# Altium integrated library PLD Supported Devices.IntLib: 344 symbols (part 2 of 6)
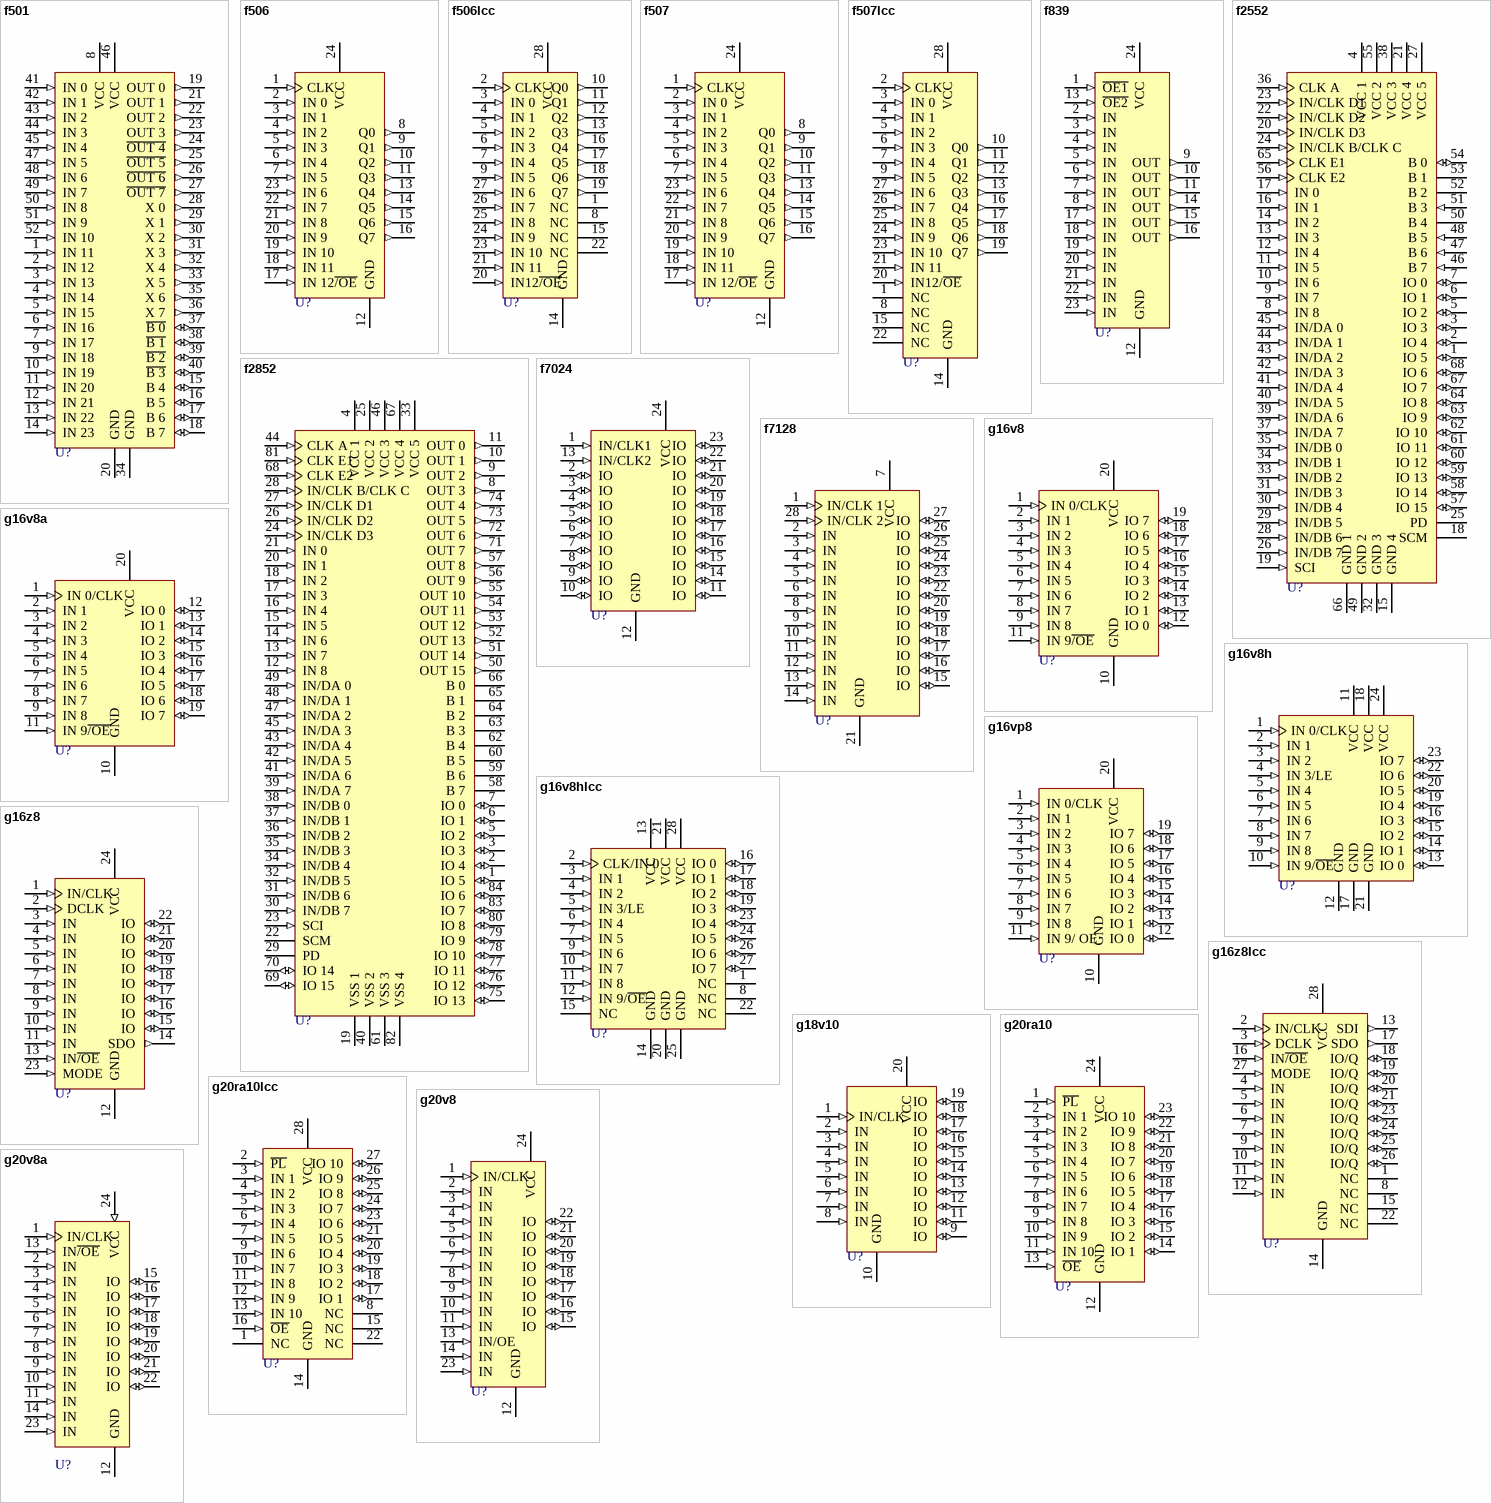
[diagram p19: symbols f501 to g20v8a]

## g20ra10
designator U?
24-Pin Asynchronous EE CMOS Programmable Array Logic; Published: 16-Jul-2002; LatestRevisionDate: 17-Jul-2002; LatestRevisionNote: Re-released for DXP Platform.; Publisher: Altium Limited
footprint DIP-24/X1.5
pins: 1 ~{PL} (in), 2 IN 1 (in), 3 IN 2 (in), 4 IN 3 (in), 5 IN 4 (in), 6 IN 5 (in), 7 IN 6 (in), 8 IN 7 (in), 9 IN 8 (in), 10 IN 9 (in), 11 IN 10 (in), 12 GND (power), 13 ~{OE} (in), 14 IO 1 (io), 15 IO 2 (io), 16 IO 3 (io), 17 IO 4 (io), 18 IO 5 (io), 19 IO 6 (io), 20 IO 7 (io), 21 IO 8 (io), 22 IO 9 (io), 23 IO 10 (io), 24 VCC (power)

## g20ra10lcc
designator U?
24-Pin Asynchronous EE CMOS Programmable Array Logic; Published: 16-Jul-2002; LatestRevisionDate: 17-Jul-2002; LatestRevisionNote: Re-released for DXP Platform.; Publisher: Altium Limited
footprint QCC-J28/X.6
pins: 1 NC, 2 ~{PL} (in), 3 IN 1 (in), 4 IN 2 (in), 5 IN 3 (in), 6 IN 4 (in), 7 IN 5 (in), 8 NC, 9 IN 6 (in), 10 IN 7 (in), 11 IN 8 (in), 12 IN 9 (in), 13 IN 10 (in), 14 GND (power), 15 NC, 16 ~{OE} (in), 17 IO 1 (io), 18 IO 2 (io), 19 IO 3 (io), 20 IO 4 (io), 21 IO 5 (io), 22 NC, 23 IO 6 (io), 24 IO 7 (io), 25 IO 8 (io), 26 IO 9 (io), 27 IO 10 (io), 28 VCC (power)

## g20v8
designator U?
EE CMOS 24-Pin Universal Programmable Array Logic; Published: 16-Jul-2002; LatestRevisionDate: 17-Jul-2002; LatestRevisionNote: Re-released for DXP Platform.; Publisher: Altium Limited
footprint DIP-24/X1.5
pins: 1 IN/CLK (in), 2 IN (in), 3 IN (in), 4 IN (in), 5 IN (in), 6 IN (in), 7 IN (in), 8 IN (in), 9 IN (in), 10 IN (in), 11 IN (in), 12 GND (power), 13 IN/OE (in), 14 IN (in), 15 IO (io), 16 IO (io), 17 IO (io), 18 IO (io), 19 IO (io), 20 IO (io), 21 IO (io), 22 IO (io), 23 IN (in), 24 VCC (power)

## g20v8a
designator U?
High-Performance E²CMOS PLD; Published: 16-Jul-2002; LatestRevisionDate: 17-Jul-2002; LatestRevisionNote: Re-released for DXP Platform.; Publisher: Altium Limited
footprint DIP-24/X1.5
pins: 1 IN/CLK (in), 2 IN (in), 3 IN (in), 4 IN (in), 5 IN (in), 6 IN (in), 7 IN (in), 8 IN (in), 9 IN (in), 10 IN (in), 11 IN (in), 12 GND (power), 13 IN~{/OE} (in), 14 IN (in), 15 IO (io), 16 IO (io), 17 IO (io), 18 IO (io), 19 IO (io), 20 IO (io), 21 IO (io), 22 IO (io), 23 IN (in), 24 VCC (in)

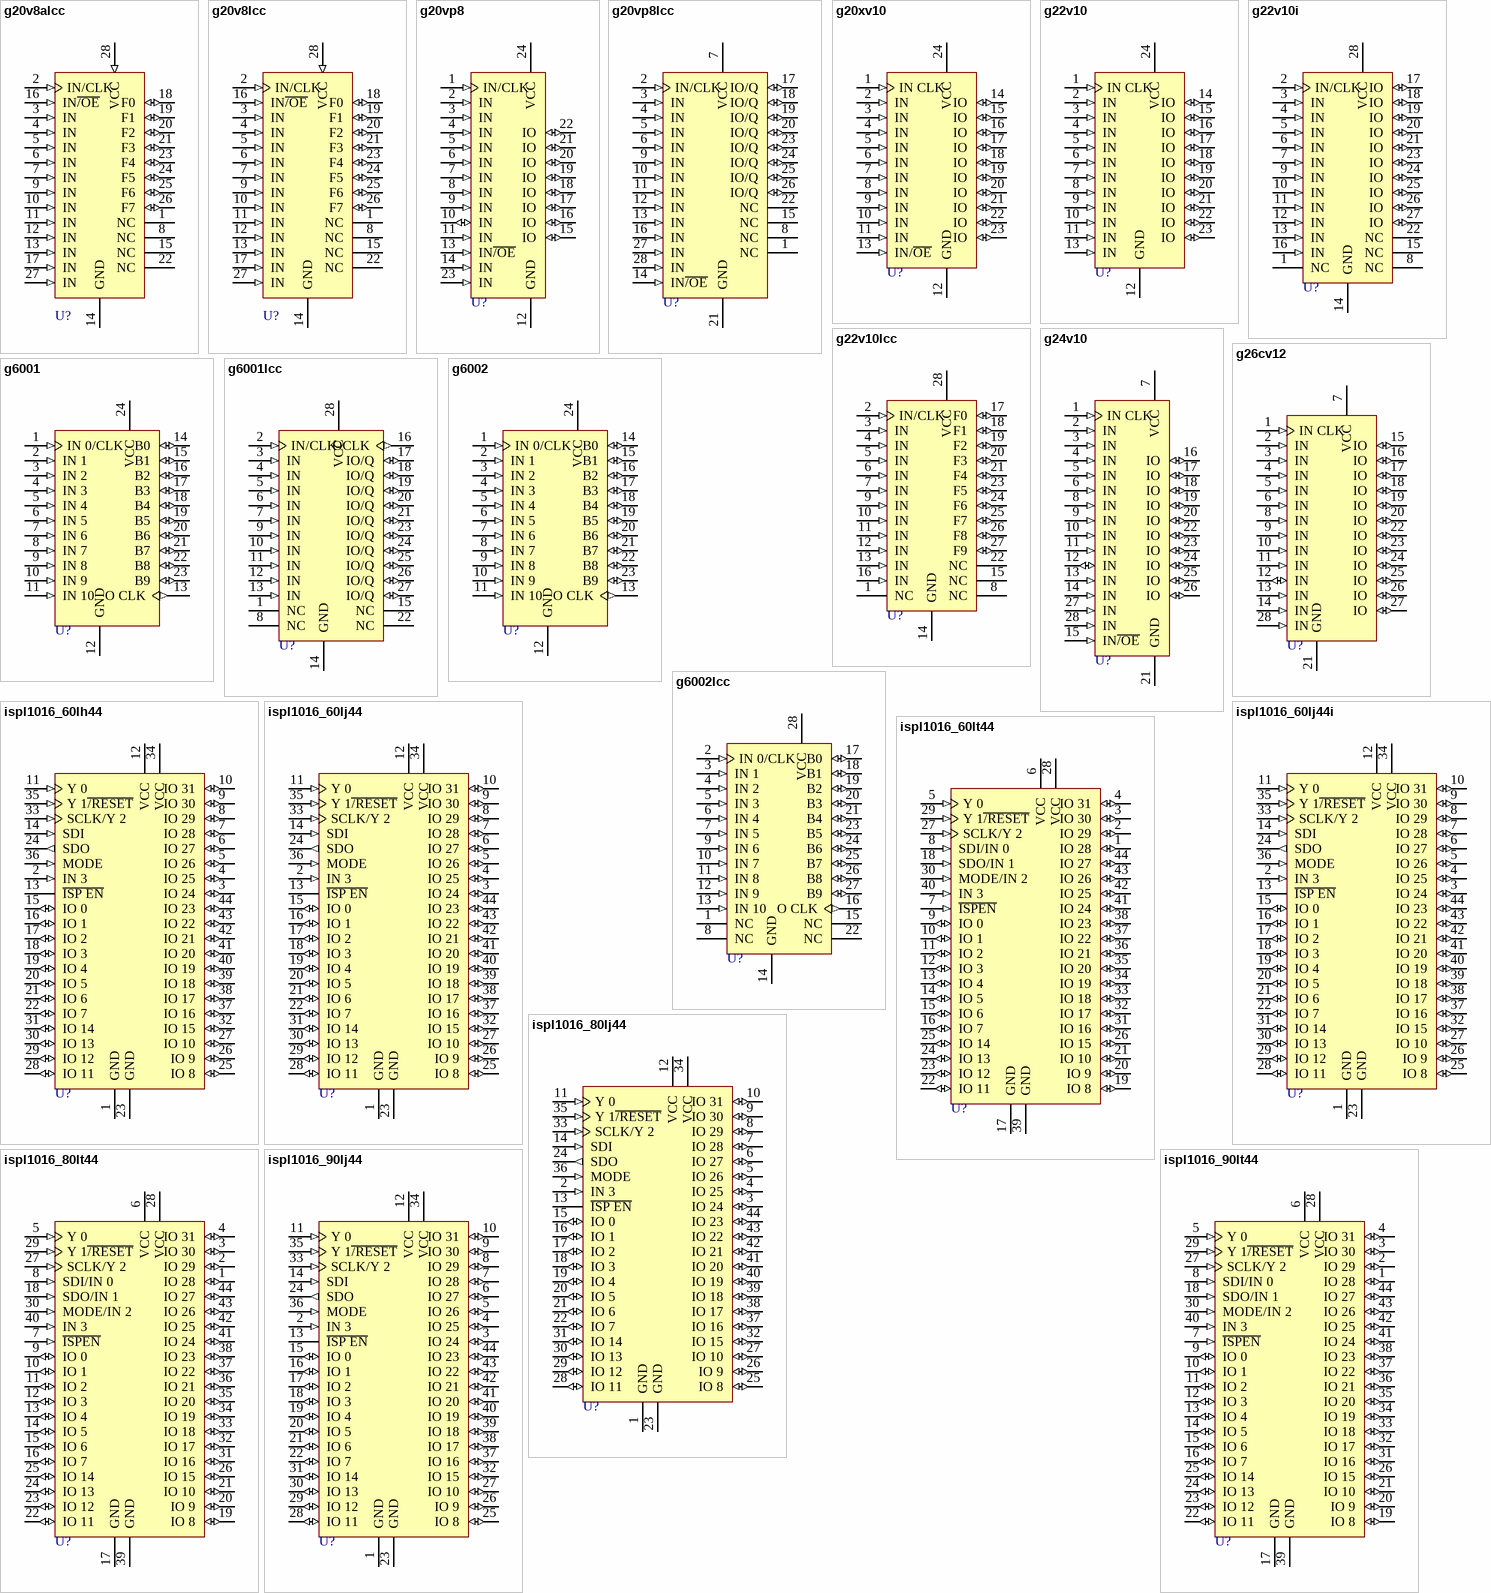
[diagram p4: symbols g20v8alcc to ispl1016_90lt44]

## g20v8alcc
designator U?
High-Performance E²CMOS PLD; Published: 16-Jul-2002; LatestRevisionDate: 17-Jul-2002; LatestRevisionNote: Re-released for DXP Platform.; Publisher: Altium Limited
footprint QCC-J28/X.6
pins: 1 NC, 2 IN/CLK (in), 3 IN (in), 4 IN (in), 5 IN (in), 6 IN (in), 7 IN (in), 8 NC, 9 IN (in), 10 IN (in), 11 IN (in), 12 IN (in), 13 IN (in), 14 GND (power), 15 NC, 16 IN~{/OE} (in), 17 IN (in), 18 F0 (io), 19 F1 (io), 20 F2 (io), 21 F3 (io), 22 NC, 23 F4 (io), 24 F5 (io), 25 F6 (io), 26 F7 (io), 27 IN (in), 28 VCC (in)

## g20v8lcc
designator U?
High-Performance EEPLD; Published: 16-Jul-2002; LatestRevisionDate: 17-Jul-2002; LatestRevisionNote: Re-released for DXP Platform.; Publisher: Altium Limited
footprint QCC-J28/Z13.3
pins: 1 NC, 2 IN/CLK (in), 3 IN (in), 4 IN (in), 5 IN (in), 6 IN (in), 7 IN (in), 8 NC, 9 IN (in), 10 IN (in), 11 IN (in), 12 IN (in), 13 IN (in), 14 GND (power), 15 NC, 16 IN~{/OE} (in), 17 IN (in), 18 F0 (io), 19 F1 (io), 20 F2 (io), 21 F3 (io), 22 NC, 23 F4 (io), 24 F5 (io), 25 F6 (io), 26 F7 (io), 27 IN (in), 28 VCC (in)

## g20vp8
designator U?
High-Speed E CMOS PLD GAL; Published: 16-Jul-2002; LatestRevisionDate: 17-Jul-2002; LatestRevisionNote: Re-released for DXP Platform.; Publisher: Altium Limited
footprint DIP-24/X1.5
pins: 1 IN/CLK (in), 2 IN (in), 3 IN (in), 4 IN (in), 5 IN (in), 6 IN (in), 7 IN (in), 8 IN (in), 9 IN (in), 10 IN (io), 11 IN (in), 12 GND (power), 13 IN~{/OE} (in), 14 IN (in), 15 IO (io), 16 IO (io), 17 IO (io), 18 IO (io), 19 IO (io), 20 IO (io), 21 IO (io), 22 IO (io), 23 IN (in), 24 VCC (power)

## g20vp8lcc
designator U?
High-Speed E CMOS PLD GAL; Published: 16-Jul-2002; LatestRevisionDate: 17-Jul-2002; LatestRevisionNote: Re-released for DXP Platform.; Publisher: Altium Limited
footprint QCC-J28/X.6
pins: 1 NC, 2 IN/CLK (in), 3 IN (in), 4 IN (in), 5 IN (in), 6 IN (in), 7 VCC (power), 8 NC, 9 IN (in), 10 IN (in), 11 IN (in), 12 IN (in), 13 IN (in), 14 IN~{/OE} (in), 15 NC, 16 IN (in), 17 IO/Q (io), 18 IO/Q (io), 19 IO/Q (io), 20 IO/Q (io), 21 GND (power), 22 NC, 23 IO/Q (io), 24 IO/Q (io), 25 IO/Q (io), 26 IO/Q (io), 27 IN (in), 28 IN (in)

## g20xv10
designator U?
High-Speed E CMOS PLD Generic Array Logic; Published: 16-Jul-2002; LatestRevisionDate: 17-Jul-2002; LatestRevisionNote: Re-released for DXP Platform.; Publisher: Altium Limited
footprint DIP-24/X1.5
pins: 1 IN CLK (in), 2 IN (in), 3 IN (in), 4 IN (in), 5 IN (in), 6 IN (in), 7 IN (in), 8 IN (in), 9 IN (in), 10 IN (in), 11 IN (in), 12 GND (power), 13 IN/~{OE} (in), 14 IO (io), 15 IO (io), 16 IO (io), 17 IO (io), 18 IO (io), 19 IO (io), 20 IO (io), 21 IO (io), 22 IO (io), 23 IO (io), 24 VCC (power)

## g22v10
designator U?
High-Performance E CMOS PLD; Published: 16-Jul-2002; LatestRevisionDate: 17-Jul-2002; LatestRevisionNote: Re-released for DXP Platform.; Publisher: Altium Limited
footprint DIP-24/X1.5
pins: 1 IN CLK (in), 2 IN (in), 3 IN (in), 4 IN (in), 5 IN (in), 6 IN (in), 7 IN (in), 8 IN (in), 9 IN (in), 10 IN (in), 11 IN (in), 12 GND (power), 13 IN (in), 14 IO (io), 15 IO (io), 16 IO (io), 17 IO (io), 18 IO (io), 19 IO (io), 20 IO (io), 21 IO (io), 22 IO (io), 23 IO (io), 24 VCC (power)

## g22v10i
designator U?
High-Performance E2CMOS PLD Generic Array Logic; Published: 16-Jul-2002; LatestRevisionDate: 17-Jul-2002; LatestRevisionNote: Re-released for DXP Platform.; Publisher: Altium Limited
footprint QCC-J28/X.6
pins: 1 NC, 2 IN/CLK (in), 3 IN (in), 4 IN (in), 5 IN (in), 6 IN (in), 7 IN (in), 8 NC, 9 IN (in), 10 IN (in), 11 IN (in), 12 IN (in), 13 IN (in), 14 GND (power), 15 NC, 16 IN (in), 17 IO (io), 18 IO (io), 19 IO (io), 20 IO (io), 21 IO (io), 22 NC, 23 IO (io), 24 IO (io), 25 IO (io), 26 IO (io), 27 IO (io), 28 VCC (power)

## g22v10lcc
designator U?
Low-Noise, High-Drive, Metastable Immune, PLD; Published: 16-Jul-2002; LatestRevisionDate: 17-Jul-2002; LatestRevisionNote: Re-released for DXP Platform.; Publisher: Altium Limited
footprint QCC-J28/X.6
pins: 1 NC, 2 IN/CLK (in), 3 IN (in), 4 IN (in), 5 IN (in), 6 IN (in), 7 IN (in), 8 NC, 9 IN (in), 10 IN (in), 11 IN (in), 12 IN (in), 13 IN (in), 14 GND (power), 15 NC, 16 IN (in), 17 F0 (io), 18 F1 (io), 19 F2 (io), 20 F3 (io), 21 F4 (io), 22 NC, 23 F5 (io), 24 F6 (io), 25 F7 (io), 26 F8 (io), 27 F9 (io), 28 VCC (power)

## g24v10
designator U?
EE CMOS 28-Pin Universal Programmable Array Logic; Published: 16-Jul-2002; LatestRevisionDate: 17-Jul-2002; LatestRevisionNote: Re-released for DXP Platform.; Publisher: Altium Limited
footprint QCC-J28/X.6
pins: 1 IN CLK (in), 2 IN (in), 3 IN (in), 4 IN (in), 5 IN (in), 6 IN (in), 7 VCC (power), 8 IN (in), 9 IN (in), 10 IN (in), 11 IN (in), 12 IN (io), 13 IN (in), 14 IN (in), 15 IN~{/OE} (in), 16 IO (io), 17 IO (io), 18 IO (io), 19 IO (io), 20 IO (io), 21 GND (power), 22 IO (io), 23 IO (io), 24 IO (io), 25 IO (io), 26 IO (io), 27 IN (in), 28 IN (in)

## g26cv12
designator U?
High-Performance E CMOS PLD; Published: 16-Jul-2002; LatestRevisionDate: 17-Jul-2002; LatestRevisionNote: Re-released for DXP Platform.; Publisher: Altium Limited
footprint QCC-J28/X.6
pins: 1 IN CLK (in), 2 IN (in), 3 IN (in), 4 IN (in), 5 IN (in), 6 IN (in), 7 VCC (power), 8 IN (in), 9 IN (in), 10 IN (in), 11 IN (in), 12 IN (io), 13 IN (in), 14 IN (in), 15 IO (io), 16 IO (io), 17 IO (io), 18 IO (io), 19 IO (io), 20 IO (io), 21 GND (power), 22 IO (io), 23 IO (io), 24 IO (io), 25 IO (io), 26 IO (io), 27 IO (io), 28 IN (in)

## g6001
designator U?
High-Performance E CMOS FPLD Generic Array Logic; Published: 16-Jul-2002; LatestRevisionDate: 17-Jul-2002; LatestRevisionNote: Re-released for DXP Platform.; Publisher: Altium Limited
footprint DIP-24/X1.5
pins: 1 IN 0/CLK (in), 2 IN 1 (in), 3 IN 2 (in), 4 IN 3 (in), 5 IN 4 (in), 6 IN 5 (in), 7 IN 6 (in), 8 IN 7 (in), 9 IN 8 (in), 10 IN 9 (in), 11 IN 10 (in), 12 GND (power), 13 O CLK (out), 14 B0 (io), 15 B1 (io), 16 B2 (io), 17 B3 (io), 18 B4 (io), 19 B5 (io), 20 B6 (io), 21 B7 (io), 22 B8 (io), 23 B9 (io), 24 VCC (power)

## g6001lcc
designator U?
High-Performance E CMOS FPLD GAL; Published: 16-Jul-2002; LatestRevisionDate: 17-Jul-2002; LatestRevisionNote: Re-released for DXP Platform.; Publisher: Altium Limited
footprint QCC-J28/X.6
pins: 1 NC, 2 IN/CLK (in), 3 IN (in), 4 IN (in), 5 IN (in), 6 IN (in), 7 IN (in), 8 NC, 9 IN (in), 10 IN (in), 11 IN (in), 12 IN (in), 13 IN (in), 14 GND (power), 15 NC, 16 OCLK (out), 17 IO/Q (io), 18 IO/Q (io), 19 IO/Q (io), 20 IO/Q (io), 21 IO/Q (io), 22 NC, 23 IO/Q (io), 24 IO/Q (io), 25 IO/Q (io), 26 IO/Q (io), 27 IO/Q (io), 28 VCC (power)

## g6002
designator U?
High-Performance E CMOS FPLD Generic Array Logic; Published: 16-Jul-2002; LatestRevisionDate: 17-Jul-2002; LatestRevisionNote: Re-released for DXP Platform.; Publisher: Altium Limited
footprint DIP-24/X1.5
pins: 1 IN 0/CLK (in), 2 IN 1 (in), 3 IN 2 (in), 4 IN 3 (in), 5 IN 4 (in), 6 IN 5 (in), 7 IN 6 (in), 8 IN 7 (in), 9 IN 8 (in), 10 IN 9 (in), 11 IN 10 (in), 12 GND (power), 13 O CLK (out), 14 B0 (io), 15 B1 (io), 16 B2 (io), 17 B3 (io), 18 B4 (io), 19 B5 (io), 20 B6 (io), 21 B7 (io), 22 B8 (io), 23 B9 (io), 24 VCC (power)

## g6002lcc
designator U?
High-Performance E CMOS FPLD Generic Array Logic; Published: 16-Jul-2002; LatestRevisionDate: 17-Jul-2002; LatestRevisionNote: Re-released for DXP Platform.; Publisher: Altium Limited
footprint QCC-J28/X.6
pins: 1 NC, 2 IN 0/CLK (in), 3 IN 1 (in), 4 IN 2 (in), 5 IN 3 (in), 6 IN 4 (in), 7 IN 5 (in), 8 NC, 9 IN 6 (in), 10 IN 7 (in), 11 IN 8 (in), 12 IN 9 (in), 13 IN 10 (in), 14 GND (power), 15 NC, 16 O CLK (out), 17 B0 (io), 18 B1 (io), 19 B2 (io), 20 B3 (io), 21 B4 (io), 22 NC, 23 B5 (io), 24 B6 (io), 25 B7 (io), 26 B8 (io), 27 B9 (io), 28 VCC (power)

## ispl1016_60lh44
designator U?
In-System Programmable Large Scale Integration High-Density Programmable Logic; Published: 16-Jul-2002; LatestRevisionDate: 17-Jul-2002; LatestRevisionNote: Re-released for DXP Platform.; Publisher: Altium Limited
footprint QCC-J44
pins: 1 GND (power), 2 IN 3 (in), 3 IO 24 (io), 4 IO 25 (io), 5 IO 26 (io), 6 IO 27 (io), 7 IO 28 (io), 8 IO 29 (io), 9 IO 30 (io), 10 IO 31 (io), 11 Y 0 (in), 12 VCC (power), 13 ~{ISP EN}, 14 SDI (in), 15 IO 0 (io), 16 IO 1 (io), 17 IO 2 (io), 18 IO 3 (io), 19 IO 4 (io), 20 IO 5 (io), 21 IO 6 (io), 22 IO 7 (io), 23 GND (power), 24 SDO (out), 25 IO 8 (io), 26 IO 9 (io), 27 IO 10 (io), 28 IO 11 (io), 29 IO 12 (io), 30 IO 13 (io), 31 IO 14 (io), 32 IO 15 (io), 33 SCLK/Y 2 (in), 34 VCC (power), 35 Y 1~{/RESET} (in), 36 MODE (in), 37 IO 16 (io), 38 IO 17 (io), 39 IO 18 (io), 40 IO 19 (io), 41 IO 20 (io), 42 IO 21 (io), 43 IO 22 (io), 44 IO 23 (io)

## ispl1016_60lj44
designator U?
In-System Programmable Large Scale Integration High-Density Programmable Logic; Published: 16-Jul-2002; LatestRevisionDate: 17-Jul-2002; LatestRevisionNote: Re-released for DXP Platform.; Publisher: Altium Limited
footprint QCC-J44/Y2
pins: 1 GND (power), 2 IN 3 (in), 3 IO 24 (io), 4 IO 25 (io), 5 IO 26 (io), 6 IO 27 (io), 7 IO 28 (io), 8 IO 29 (io), 9 IO 30 (io), 10 IO 31 (io), 11 Y 0 (in), 12 VCC (power), 13 ~{ISP EN}, 14 SDI (in), 15 IO 0 (io), 16 IO 1 (io), 17 IO 2 (io), 18 IO 3 (io), 19 IO 4 (io), 20 IO 5 (io), 21 IO 6 (io), 22 IO 7 (io), 23 GND (power), 24 SDO (out), 25 IO 8 (io), 26 IO 9 (io), 27 IO 10 (io), 28 IO 11 (io), 29 IO 12 (io), 30 IO 13 (io), 31 IO 14 (io), 32 IO 15 (io), 33 SCLK/Y 2 (in), 34 VCC (power), 35 Y 1~{/RESET} (in), 36 MODE (in), 37 IO 16 (io), 38 IO 17 (io), 39 IO 18 (io), 40 IO 19 (io), 41 IO 20 (io), 42 IO 21 (io), 43 IO 22 (io), 44 IO 23 (io)

## ispl1016_60lj44i
designator U?
In-System Programmable Large Scale Integration High-Density Programmable Logic; Published: 16-Jul-2002; LatestRevisionDate: 17-Jul-2002; LatestRevisionNote: Re-released for DXP Platform.; Publisher: Altium Limited
footprint QCC-J44/Y2
pins: 1 GND (power), 2 IN 3 (in), 3 IO 24 (io), 4 IO 25 (io), 5 IO 26 (io), 6 IO 27 (io), 7 IO 28 (io), 8 IO 29 (io), 9 IO 30 (io), 10 IO 31 (io), 11 Y 0 (in), 12 VCC (power), 13 ~{ISP EN}, 14 SDI (in), 15 IO 0 (io), 16 IO 1 (io), 17 IO 2 (io), 18 IO 3 (io), 19 IO 4 (io), 20 IO 5 (io), 21 IO 6 (io), 22 IO 7 (io), 23 GND (power), 24 SDO (out), 25 IO 8 (io), 26 IO 9 (io), 27 IO 10 (io), 28 IO 11 (io), 29 IO 12 (io), 30 IO 13 (io), 31 IO 14 (io), 32 IO 15 (io), 33 SCLK/Y 2 (in), 34 VCC (power), 35 Y 1~{/RESET} (in), 36 MODE (in), 37 IO 16 (io), 38 IO 17 (io), 39 IO 18 (io), 40 IO 19 (io), 41 IO 20 (io), 42 IO 21 (io), 43 IO 22 (io), 44 IO 23 (io)

## ispl1016_60lt44
designator U?
In-System Programmable Large Scale Integration High-Density Programmable Logic; Published: 16-Jul-2002; LatestRevisionDate: 17-Jul-2002; LatestRevisionNote: Re-released for DXP Platform.; Publisher: Altium Limited
footprint QFP10x10-G44/X.5N
pins: 1 IO 28 (io), 2 IO 29 (io), 3 IO 30 (io), 4 IO 31 (io), 5 Y 0 (in), 6 VCC (power), 7 ~{ISPEN} (in), 8 SDI/IN 0 (in), 9 IO 0 (io), 10 IO 1 (io), 11 IO 2 (io), 12 IO 3 (io), 13 IO 4 (io), 14 IO 5 (io), 15 IO 6 (io), 16 IO 7 (io), 17 GND (power), 18 SDO/IN 1 (in), 19 IO 8 (io), 20 IO 9 (io), 21 IO 10 (io), 22 IO 11 (io), 23 IO 12 (io), 24 IO 13 (io), 25 IO 14 (io), 26 IO 15 (io), 27 SCLK/Y 2 (in), 28 VCC (power), 29 Y 1~{/RESET} (in), 30 MODE/IN 2 (in), 31 IO 16 (io), 32 IO 17 (io), 33 IO 18 (io), 34 IO 19 (io), 35 IO 20 (io), 36 IO 21 (io), 37 IO 22 (io), 38 IO 23 (io), 39 GND (power), 40 IN 3 (in), 41 IO 24 (io), 42 IO 25 (io), 43 IO 26 (io), 44 IO 27 (io)

## ispl1016_80lj44
designator U?
In-System Programmable Large Scale Integration High-Density Programmable Logic; Published: 16-Jul-2002; LatestRevisionDate: 17-Jul-2002; LatestRevisionNote: Re-released for DXP Platform.; Publisher: Altium Limited
footprint QCC-J44/Y2
pins: 1 GND (power), 2 IN 3 (in), 3 IO 24 (io), 4 IO 25 (io), 5 IO 26 (io), 6 IO 27 (io), 7 IO 28 (io), 8 IO 29 (io), 9 IO 30 (io), 10 IO 31 (io), 11 Y 0 (in), 12 VCC (power), 13 ~{ISP EN}, 14 SDI (in), 15 IO 0 (io), 16 IO 1 (io), 17 IO 2 (io), 18 IO 3 (io), 19 IO 4 (io), 20 IO 5 (io), 21 IO 6 (io), 22 IO 7 (io), 23 GND (power), 24 SDO (out), 25 IO 8 (io), 26 IO 9 (io), 27 IO 10 (io), 28 IO 11 (io), 29 IO 12 (io), 30 IO 13 (io), 31 IO 14 (io), 32 IO 15 (io), 33 SCLK/Y 2 (in), 34 VCC (power), 35 Y 1~{/RESET} (in), 36 MODE (in), 37 IO 16 (io), 38 IO 17 (io), 39 IO 18 (io), 40 IO 19 (io), 41 IO 20 (io), 42 IO 21 (io), 43 IO 22 (io), 44 IO 23 (io)

## ispl1016_80lt44
designator U?
In-System Programmable Large Scale Integration High-Density Programmable Logic; Published: 16-Jul-2002; LatestRevisionDate: 17-Jul-2002; LatestRevisionNote: Re-released for DXP Platform.; Publisher: Altium Limited
footprint QFP10x10-G44/X.5N
pins: 1 IO 28 (io), 2 IO 29 (io), 3 IO 30 (io), 4 IO 31 (io), 5 Y 0 (in), 6 VCC (power), 7 ~{ISPEN} (in), 8 SDI/IN 0 (in), 9 IO 0 (io), 10 IO 1 (io), 11 IO 2 (io), 12 IO 3 (io), 13 IO 4 (io), 14 IO 5 (io), 15 IO 6 (io), 16 IO 7 (io), 17 GND (power), 18 SDO/IN 1 (in), 19 IO 8 (io), 20 IO 9 (io), 21 IO 10 (io), 22 IO 11 (io), 23 IO 12 (io), 24 IO 13 (io), 25 IO 14 (io), 26 IO 15 (io), 27 SCLK/Y 2 (in), 28 VCC (power), 29 Y 1~{/RESET} (in), 30 MODE/IN 2 (in), 31 IO 16 (io), 32 IO 17 (io), 33 IO 18 (io), 34 IO 19 (io), 35 IO 20 (io), 36 IO 21 (io), 37 IO 22 (io), 38 IO 23 (io), 39 GND (power), 40 IN 3 (in), 41 IO 24 (io), 42 IO 25 (io), 43 IO 26 (io), 44 IO 27 (io)

## ispl1016_90lj44
designator U?
In-System Programmable Large Scale Integration High-Density Programmable Logic; Published: 16-Jul-2002; LatestRevisionDate: 17-Jul-2002; LatestRevisionNote: Re-released for DXP Platform.; Publisher: Altium Limited
footprint QCC-J44/Y2
pins: 1 GND (power), 2 IN 3 (in), 3 IO 24 (io), 4 IO 25 (io), 5 IO 26 (io), 6 IO 27 (io), 7 IO 28 (io), 8 IO 29 (io), 9 IO 30 (io), 10 IO 31 (io), 11 Y 0 (in), 12 VCC (power), 13 ~{ISP EN}, 14 SDI (in), 15 IO 0 (io), 16 IO 1 (io), 17 IO 2 (io), 18 IO 3 (io), 19 IO 4 (io), 20 IO 5 (io), 21 IO 6 (io), 22 IO 7 (io), 23 GND (power), 24 SDO (out), 25 IO 8 (io), 26 IO 9 (io), 27 IO 10 (io), 28 IO 11 (io), 29 IO 12 (io), 30 IO 13 (io), 31 IO 14 (io), 32 IO 15 (io), 33 SCLK/Y 2 (in), 34 VCC (power), 35 Y 1~{/RESET} (in), 36 MODE (in), 37 IO 16 (io), 38 IO 17 (io), 39 IO 18 (io), 40 IO 19 (io), 41 IO 20 (io), 42 IO 21 (io), 43 IO 22 (io), 44 IO 23 (io)

## ispl1016_90lt44
designator U?
In-System Programmable Large Scale Integration High-Density Programmable Logic; Published: 16-Jul-2002; LatestRevisionDate: 17-Jul-2002; LatestRevisionNote: Re-released for DXP Platform.; Publisher: Altium Limited
footprint QFP10x10-G44/X.5N
pins: 1 IO 28 (io), 2 IO 29 (io), 3 IO 30 (io), 4 IO 31 (io), 5 Y 0 (in), 6 VCC (power), 7 ~{ISPEN} (in), 8 SDI/IN 0 (in), 9 IO 0 (io), 10 IO 1 (io), 11 IO 2 (io), 12 IO 3 (io), 13 IO 4 (io), 14 IO 5 (io), 15 IO 6 (io), 16 IO 7 (io), 17 GND (power), 18 SDO/IN 1 (in), 19 IO 8 (io), 20 IO 9 (io), 21 IO 10 (io), 22 IO 11 (io), 23 IO 12 (io), 24 IO 13 (io), 25 IO 14 (io), 26 IO 15 (io), 27 SCLK/Y 2 (in), 28 VCC (power), 29 Y 1~{/RESET} (in), 30 MODE/IN 2 (in), 31 IO 16 (io), 32 IO 17 (io), 33 IO 18 (io), 34 IO 19 (io), 35 IO 20 (io), 36 IO 21 (io), 37 IO 22 (io), 38 IO 23 (io), 39 GND (power), 40 IN 3 (in), 41 IO 24 (io), 42 IO 25 (io), 43 IO 26 (io), 44 IO 27 (io)

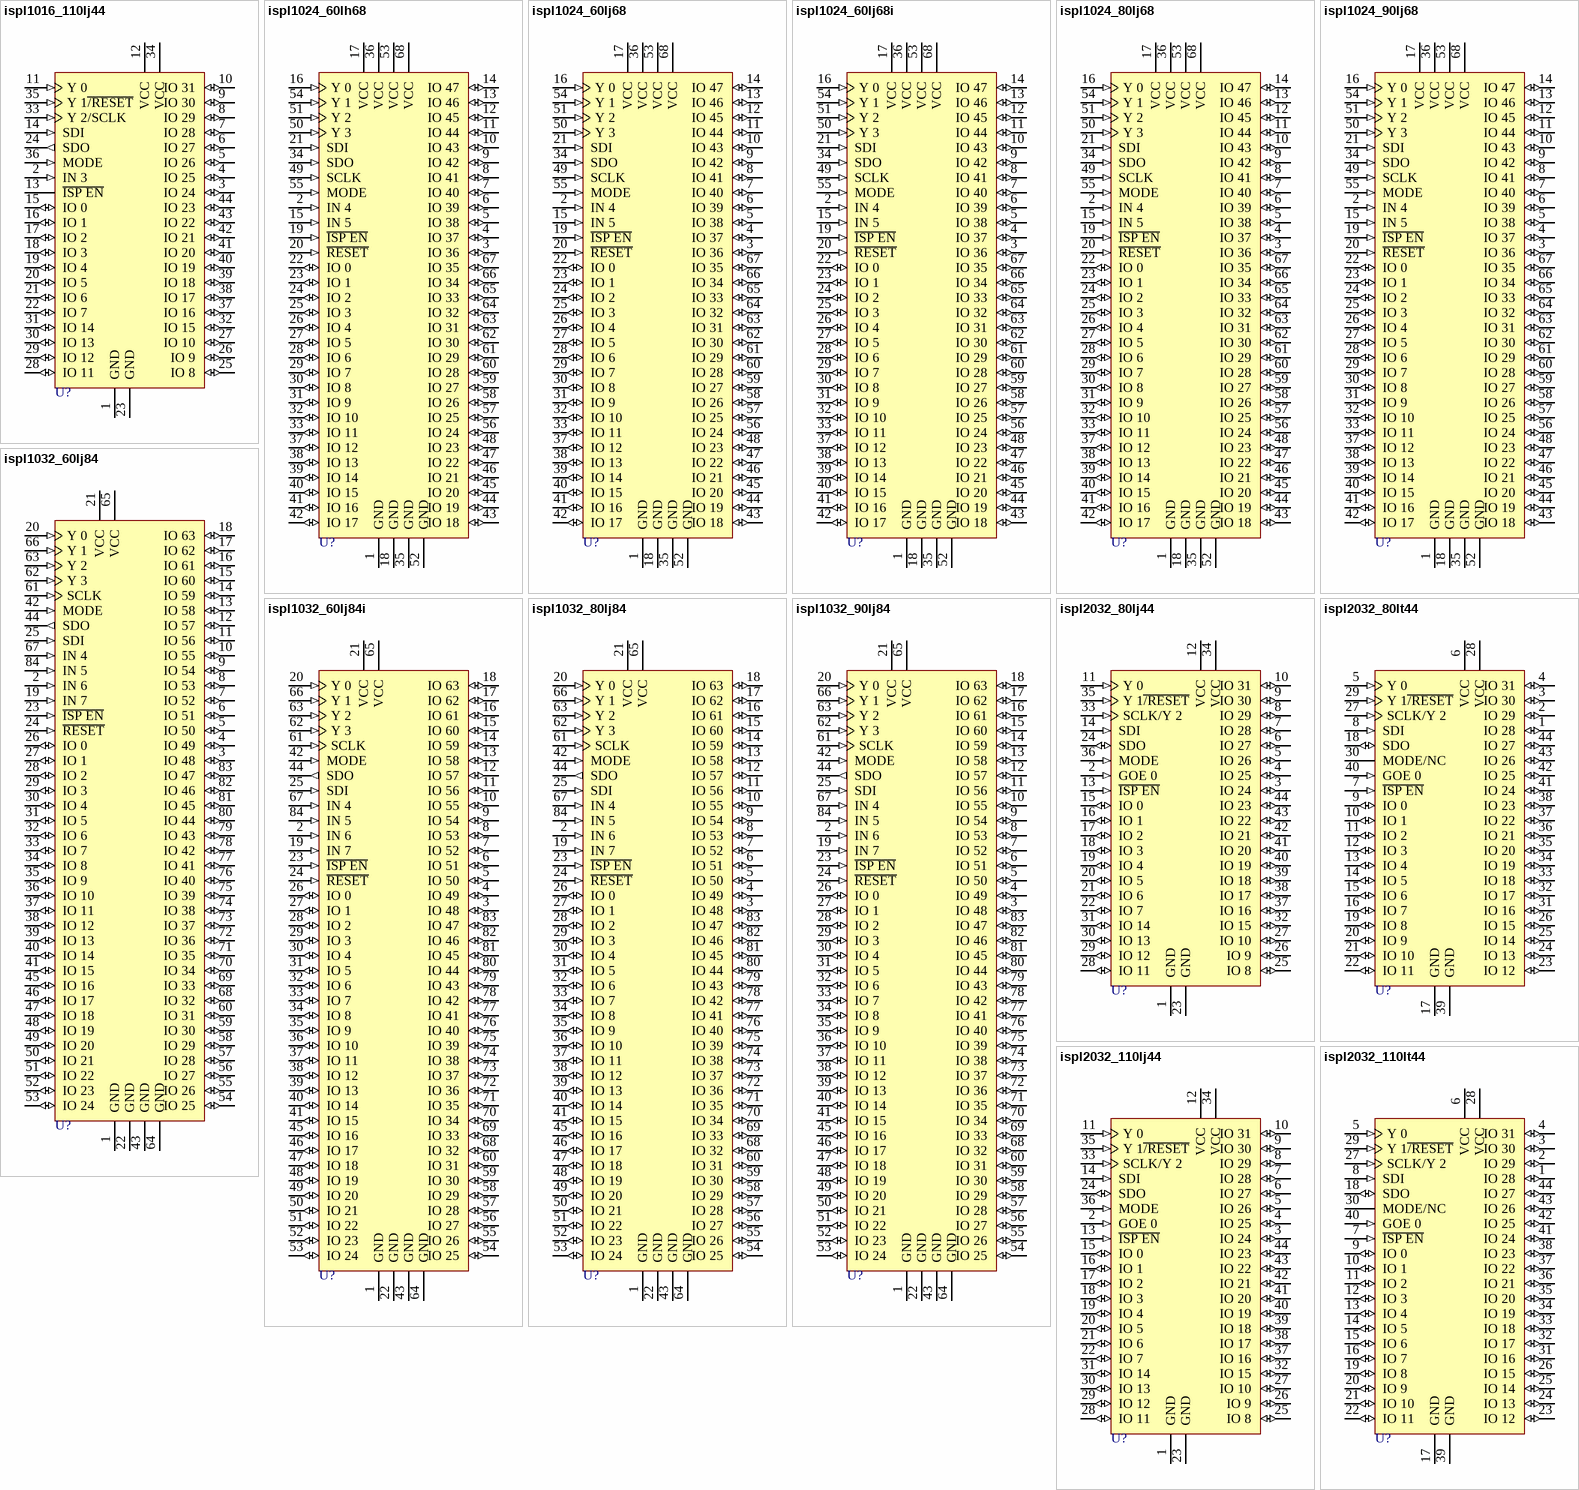
[diagram p5: symbols ispl1016_110lj44 to ispl2032_110lt44]

## ispl1016_110lj44
designator U?
In-System Programmable Large Scale Integration High-Density Programmable Logic; Published: 16-Jul-2002; LatestRevisionDate: 17-Jul-2002; LatestRevisionNote: Re-released for DXP Platform.; Publisher: Altium Limited
footprint QCC-J44/Y2
pins: 1 GND (power), 2 IN 3 (in), 3 IO 24 (io), 4 IO 25 (io), 5 IO 26 (io), 6 IO 27 (io), 7 IO 28 (io), 8 IO 29 (io), 9 IO 30 (io), 10 IO 31 (io), 11 Y 0 (in), 12 VCC (power), 13 ~{ISP EN}, 14 SDI (in), 15 IO 0 (io), 16 IO 1 (io), 17 IO 2 (io), 18 IO 3 (io), 19 IO 4 (io), 20 IO 5 (io), 21 IO 6 (io), 22 IO 7 (io), 23 GND (power), 24 SDO (out), 25 IO 8 (io), 26 IO 9 (io), 27 IO 10 (io), 28 IO 11 (io), 29 IO 12 (io), 30 IO 13 (io), 31 IO 14 (io), 32 IO 15 (io), 33 Y 2/SCLK (in), 34 VCC (power), 35 Y 1~{/RESET} (in), 36 MODE (in), 37 IO 16 (io), 38 IO 17 (io), 39 IO 18 (io), 40 IO 19 (io), 41 IO 20 (io), 42 IO 21 (io), 43 IO 22 (io), 44 IO 23 (io)

## ispl1024_60lh68
designator U?
Programmable Large Scale Integration High-Density Programmable Logic; Published: 16-Jul-2002; LatestRevisionDate: 17-Jul-2002; LatestRevisionNote: Re-released for DXP Platform.; Publisher: Altium Limited
footprint QCC-J68
pins: 1 GND (power), 2 IN 4 (in), 3 IO 36 (io), 4 IO 37 (io), 5 IO 38 (io), 6 IO 39 (io), 7 IO 40 (io), 8 IO 41 (io), 9 IO 42 (io), 10 IO 43 (io), 11 IO 44 (io), 12 IO 45 (io), 13 IO 46 (io), 14 IO 47 (io), 15 IN 5 (in), 16 Y 0 (in), 17 VCC (power), 18 GND (power), 19 ~{ISP EN} (in), 20 ~{RESET} (in), 21 SDI (in), 22 IO 0 (io), 23 IO 1 (io), 24 IO 2 (io), 25 IO 3 (io), 26 IO 4 (io), 27 IO 5 (io), 28 IO 6 (io), 29 IO 7 (io), 30 IO 8 (io), 31 IO 9 (io), 32 IO 10 (io), 33 IO 11 (io), 34 SDO (in), 35 GND (power), 36 VCC (power), 37 IO 12 (io), 38 IO 13 (io), 39 IO 14 (io), 40 IO 15 (io), 41 IO 16 (io), 42 IO 17 (io), 43 IO 18 (io), 44 IO 19 (io), 45 IO 20 (io), 46 IO 21 (io), 47 IO 22 (io), 48 IO 23 (io), 49 SCLK (in), 50 Y 3 (in), 51 Y 2 (in), 52 GND (power), 53 VCC (power), 54 Y 1 (in), 55 MODE (in), 56 IO 24 (io), 57 IO 25 (io), 58 IO 26 (io), 59 IO 27 (io), 60 IO 28 (io), 61 IO 29 (io), 62 IO 30 (io), 63 IO 31 (io), 64 IO 32 (io), 65 IO 33 (io), 66 IO 34 (io), 67 IO 35 (io), 68 VCC (power)

## ispl1024_60lj68
designator U?
Programmable Large Scale Integration High-Density Programmable Logic; Published: 16-Jul-2002; LatestRevisionDate: 17-Jul-2002; LatestRevisionNote: Re-released for DXP Platform.; Publisher: Altium Limited
footprint QCC-J68/G22.1
pins: 1 GND (power), 2 IN 4 (in), 3 IO 36 (io), 4 IO 37 (io), 5 IO 38 (io), 6 IO 39 (io), 7 IO 40 (io), 8 IO 41 (io), 9 IO 42 (io), 10 IO 43 (io), 11 IO 44 (io), 12 IO 45 (io), 13 IO 46 (io), 14 IO 47 (io), 15 IN 5 (in), 16 Y 0 (in), 17 VCC (power), 18 GND (power), 19 ~{ISP EN} (in), 20 ~{RESET} (in), 21 SDI (in), 22 IO 0 (io), 23 IO 1 (io), 24 IO 2 (io), 25 IO 3 (io), 26 IO 4 (io), 27 IO 5 (io), 28 IO 6 (io), 29 IO 7 (io), 30 IO 8 (io), 31 IO 9 (io), 32 IO 10 (io), 33 IO 11 (io), 34 SDO (in), 35 GND (power), 36 VCC (power), 37 IO 12 (io), 38 IO 13 (io), 39 IO 14 (io), 40 IO 15 (io), 41 IO 16 (io), 42 IO 17 (io), 43 IO 18 (io), 44 IO 19 (io), 45 IO 20 (io), 46 IO 21 (io), 47 IO 22 (io), 48 IO 23 (io), 49 SCLK (in), 50 Y 3 (in), 51 Y 2 (in), 52 GND (power), 53 VCC (power), 54 Y 1 (in), 55 MODE (in), 56 IO 24 (io), 57 IO 25 (io), 58 IO 26 (io), 59 IO 27 (io), 60 IO 28 (io), 61 IO 29 (io), 62 IO 30 (io), 63 IO 31 (io), 64 IO 32 (io), 65 IO 33 (io), 66 IO 34 (io), 67 IO 35 (io), 68 VCC (power)

## ispl1024_60lj68i
designator U?
Programmable Large Scale Integration High-Density Programmable Logic; Published: 16-Jul-2002; LatestRevisionDate: 17-Jul-2002; LatestRevisionNote: Re-released for DXP Platform.; Publisher: Altium Limited
footprint QCC-J68/G22.1
pins: 1 GND (power), 2 IN 4 (in), 3 IO 36 (io), 4 IO 37 (io), 5 IO 38 (io), 6 IO 39 (io), 7 IO 40 (io), 8 IO 41 (io), 9 IO 42 (io), 10 IO 43 (io), 11 IO 44 (io), 12 IO 45 (io), 13 IO 46 (io), 14 IO 47 (io), 15 IN 5 (in), 16 Y 0 (in), 17 VCC (power), 18 GND (power), 19 ~{ISP EN} (in), 20 ~{RESET} (in), 21 SDI (in), 22 IO 0 (io), 23 IO 1 (io), 24 IO 2 (io), 25 IO 3 (io), 26 IO 4 (io), 27 IO 5 (io), 28 IO 6 (io), 29 IO 7 (io), 30 IO 8 (io), 31 IO 9 (io), 32 IO 10 (io), 33 IO 11 (io), 34 SDO (in), 35 GND (power), 36 VCC (power), 37 IO 12 (io), 38 IO 13 (io), 39 IO 14 (io), 40 IO 15 (io), 41 IO 16 (io), 42 IO 17 (io), 43 IO 18 (io), 44 IO 19 (io), 45 IO 20 (io), 46 IO 21 (io), 47 IO 22 (io), 48 IO 23 (io), 49 SCLK (in), 50 Y 3 (in), 51 Y 2 (in), 52 GND (power), 53 VCC (power), 54 Y 1 (in), 55 MODE (in), 56 IO 24 (io), 57 IO 25 (io), 58 IO 26 (io), 59 IO 27 (io), 60 IO 28 (io), 61 IO 29 (io), 62 IO 30 (io), 63 IO 31 (io), 64 IO 32 (io), 65 IO 33 (io), 66 IO 34 (io), 67 IO 35 (io), 68 VCC (power)

## ispl1024_80lj68
designator U?
Programmable Large Scale Integration High-Density Programmable Logic; Published: 16-Jul-2002; LatestRevisionDate: 17-Jul-2002; LatestRevisionNote: Re-released for DXP Platform.; Publisher: Altium Limited
footprint QCC-J68/G22.1
pins: 1 GND (power), 2 IN 4 (in), 3 IO 36 (io), 4 IO 37 (io), 5 IO 38 (io), 6 IO 39 (io), 7 IO 40 (io), 8 IO 41 (io), 9 IO 42 (io), 10 IO 43 (io), 11 IO 44 (io), 12 IO 45 (io), 13 IO 46 (io), 14 IO 47 (io), 15 IN 5 (in), 16 Y 0 (in), 17 VCC (power), 18 GND (power), 19 ~{ISP EN} (in), 20 ~{RESET} (in), 21 SDI (in), 22 IO 0 (io), 23 IO 1 (io), 24 IO 2 (io), 25 IO 3 (io), 26 IO 4 (io), 27 IO 5 (io), 28 IO 6 (io), 29 IO 7 (io), 30 IO 8 (io), 31 IO 9 (io), 32 IO 10 (io), 33 IO 11 (io), 34 SDO (in), 35 GND (power), 36 VCC (power), 37 IO 12 (io), 38 IO 13 (io), 39 IO 14 (io), 40 IO 15 (io), 41 IO 16 (io), 42 IO 17 (io), 43 IO 18 (io), 44 IO 19 (io), 45 IO 20 (io), 46 IO 21 (io), 47 IO 22 (io), 48 IO 23 (io), 49 SCLK (in), 50 Y 3 (in), 51 Y 2 (in), 52 GND (power), 53 VCC (power), 54 Y 1 (in), 55 MODE (in), 56 IO 24 (io), 57 IO 25 (io), 58 IO 26 (io), 59 IO 27 (io), 60 IO 28 (io), 61 IO 29 (io), 62 IO 30 (io), 63 IO 31 (io), 64 IO 32 (io), 65 IO 33 (io), 66 IO 34 (io), 67 IO 35 (io), 68 VCC (power)

## ispl1024_90lj68
designator U?
Programmable Large Scale Integration High-Density Programmable Logic; Published: 16-Jul-2002; LatestRevisionDate: 17-Jul-2002; LatestRevisionNote: Re-released for DXP Platform.; Publisher: Altium Limited
footprint QCC-J68/G22.1
pins: 1 GND (power), 2 IN 4 (in), 3 IO 36 (io), 4 IO 37 (io), 5 IO 38 (io), 6 IO 39 (io), 7 IO 40 (io), 8 IO 41 (io), 9 IO 42 (io), 10 IO 43 (io), 11 IO 44 (io), 12 IO 45 (io), 13 IO 46 (io), 14 IO 47 (io), 15 IN 5 (in), 16 Y 0 (in), 17 VCC (power), 18 GND (power), 19 ~{ISP EN} (in), 20 ~{RESET} (in), 21 SDI (in), 22 IO 0 (io), 23 IO 1 (io), 24 IO 2 (io), 25 IO 3 (io), 26 IO 4 (io), 27 IO 5 (io), 28 IO 6 (io), 29 IO 7 (io), 30 IO 8 (io), 31 IO 9 (io), 32 IO 10 (io), 33 IO 11 (io), 34 SDO (in), 35 GND (power), 36 VCC (power), 37 IO 12 (io), 38 IO 13 (io), 39 IO 14 (io), 40 IO 15 (io), 41 IO 16 (io), 42 IO 17 (io), 43 IO 18 (io), 44 IO 19 (io), 45 IO 20 (io), 46 IO 21 (io), 47 IO 22 (io), 48 IO 23 (io), 49 SCLK (in), 50 Y 3 (in), 51 Y 2 (in), 52 GND (power), 53 VCC (power), 54 Y 1 (in), 55 MODE (in), 56 IO 24 (io), 57 IO 25 (io), 58 IO 26 (io), 59 IO 27 (io), 60 IO 28 (io), 61 IO 29 (io), 62 IO 30 (io), 63 IO 31 (io), 64 IO 32 (io), 65 IO 33 (io), 66 IO 34 (io), 67 IO 35 (io), 68 VCC (power)

## ispl1032_60lj84
designator U?
Programmable Large Scale Integration High-Density Programmable Logic; Published: 16-Jul-2002; LatestRevisionDate: 17-Jul-2002; LatestRevisionNote: Re-released for DXP Platform.; Publisher: Altium Limited
footprint QCC-J84
pins: 1 GND (power), 2 IN 6 (in), 3 IO 48 (io), 4 IO 49 (io), 5 IO 50 (io), 6 IO 51 (io), 7 IO 52 (io), 8 IO 53 (io), 9 IO 54 (io), 10 IO 55 (io), 11 IO 56 (io), 12 IO 57 (io), 13 IO 58 (io), 14 IO 59 (io), 15 IO 60 (io), 16 IO 61 (io), 17 IO 62 (io), 18 IO 63 (io), 19 IN 7 (in), 20 Y 0 (in), 21 VCC (power), 22 GND (power), 23 ~{ISP EN} (in), 24 ~{RESET} (in), 25 SDI (in), 26 IO 0 (io), 27 IO 1 (io), 28 IO 2 (io), 29 IO 3 (io), 30 IO 4 (io), 31 IO 5 (io), 32 IO 6 (io), 33 IO 7 (io), 34 IO 8 (io), 35 IO 9 (io), 36 IO 10 (io), 37 IO 11 (io), 38 IO 12 (io), 39 IO 13 (io), 40 IO 14 (io), 41 IO 15 (io), 42 MODE (in), 43 GND (power), 44 SDO (out), 45 IO 16 (io), 46 IO 17 (io), 47 IO 18 (io), 48 IO 19 (io), 49 IO 20 (io), 50 IO 21 (io), 51 IO 22 (io), 52 IO 23 (io), 53 IO 24 (io), 54 IO 25 (io), 55 IO 26 (io), 56 IO 27 (io), 57 IO 28 (io), 58 IO 29 (io), 59 IO 30 (io), 60 IO 31 (io), 61 SCLK (in), 62 Y 3 (in), 63 Y 2 (in), 64 GND (power), 65 VCC (power), 66 Y 1 (in), 67 IN 4 (in), 68 IO 32 (io), 69 IO 33 (io), 70 IO 34 (io), 71 IO 35 (io), 72 IO 36 (io), 73 IO 37 (io), 74 IO 38 (io), 75 IO 39 (io), 76 IO 40 (io), 77 IO 41 (io), 78 IO 42 (io), 79 IO 43 (io), 80 IO 44 (io), 81 IO 45 (io), 82 IO 46 (io), 83 IO 47 (io), 84 IN 5 (in)

## ispl1032_60lj84i
designator U?
Programmable Large Scale Integration High-Density Programmable Logic; Published: 16-Jul-2002; LatestRevisionDate: 17-Jul-2002; LatestRevisionNote: Re-released for DXP Platform.; Publisher: Altium Limited
footprint QCC-J84
pins: 1 GND (power), 2 IN 6 (in), 3 IO 48 (io), 4 IO 49 (io), 5 IO 50 (io), 6 IO 51 (io), 7 IO 52 (io), 8 IO 53 (io), 9 IO 54 (io), 10 IO 55 (io), 11 IO 56 (io), 12 IO 57 (io), 13 IO 58 (io), 14 IO 59 (io), 15 IO 60 (io), 16 IO 61 (io), 17 IO 62 (io), 18 IO 63 (io), 19 IN 7 (in), 20 Y 0 (in), 21 VCC (power), 22 GND (power), 23 ~{ISP EN} (in), 24 ~{RESET} (in), 25 SDI (in), 26 IO 0 (io), 27 IO 1 (io), 28 IO 2 (io), 29 IO 3 (io), 30 IO 4 (io), 31 IO 5 (io), 32 IO 6 (io), 33 IO 7 (io), 34 IO 8 (io), 35 IO 9 (io), 36 IO 10 (io), 37 IO 11 (io), 38 IO 12 (io), 39 IO 13 (io), 40 IO 14 (io), 41 IO 15 (io), 42 MODE (in), 43 GND (power), 44 SDO (out), 45 IO 16 (io), 46 IO 17 (io), 47 IO 18 (io), 48 IO 19 (io), 49 IO 20 (io), 50 IO 21 (io), 51 IO 22 (io), 52 IO 23 (io), 53 IO 24 (io), 54 IO 25 (io), 55 IO 26 (io), 56 IO 27 (io), 57 IO 28 (io), 58 IO 29 (io), 59 IO 30 (io), 60 IO 31 (io), 61 SCLK (in), 62 Y 3 (in), 63 Y 2 (in), 64 GND (power), 65 VCC (power), 66 Y 1 (in), 67 IN 4 (in), 68 IO 32 (io), 69 IO 33 (io), 70 IO 34 (io), 71 IO 35 (io), 72 IO 36 (io), 73 IO 37 (io), 74 IO 38 (io), 75 IO 39 (io), 76 IO 40 (io), 77 IO 41 (io), 78 IO 42 (io), 79 IO 43 (io), 80 IO 44 (io), 81 IO 45 (io), 82 IO 46 (io), 83 IO 47 (io), 84 IN 5 (in)

## ispl1032_80lj84
designator U?
Programmable Large Scale Integration High-Density Programmable Logic; Published: 16-Jul-2002; LatestRevisionDate: 17-Jul-2002; LatestRevisionNote: Re-released for DXP Platform.; Publisher: Altium Limited
footprint QCC-J84
pins: 1 GND (power), 2 IN 6 (in), 3 IO 48 (io), 4 IO 49 (io), 5 IO 50 (io), 6 IO 51 (io), 7 IO 52 (io), 8 IO 53 (io), 9 IO 54 (io), 10 IO 55 (io), 11 IO 56 (io), 12 IO 57 (io), 13 IO 58 (io), 14 IO 59 (io), 15 IO 60 (io), 16 IO 61 (io), 17 IO 62 (io), 18 IO 63 (io), 19 IN 7 (in), 20 Y 0 (in), 21 VCC (power), 22 GND (power), 23 ~{ISP EN} (in), 24 ~{RESET} (in), 25 SDI (in), 26 IO 0 (io), 27 IO 1 (io), 28 IO 2 (io), 29 IO 3 (io), 30 IO 4 (io), 31 IO 5 (io), 32 IO 6 (io), 33 IO 7 (io), 34 IO 8 (io), 35 IO 9 (io), 36 IO 10 (io), 37 IO 11 (io), 38 IO 12 (io), 39 IO 13 (io), 40 IO 14 (io), 41 IO 15 (io), 42 MODE (in), 43 GND (power), 44 SDO (out), 45 IO 16 (io), 46 IO 17 (io), 47 IO 18 (io), 48 IO 19 (io), 49 IO 20 (io), 50 IO 21 (io), 51 IO 22 (io), 52 IO 23 (io), 53 IO 24 (io), 54 IO 25 (io), 55 IO 26 (io), 56 IO 27 (io), 57 IO 28 (io), 58 IO 29 (io), 59 IO 30 (io), 60 IO 31 (io), 61 SCLK (in), 62 Y 3 (in), 63 Y 2 (in), 64 GND (power), 65 VCC (power), 66 Y 1 (in), 67 IN 4 (in), 68 IO 32 (io), 69 IO 33 (io), 70 IO 34 (io), 71 IO 35 (io), 72 IO 36 (io), 73 IO 37 (io), 74 IO 38 (io), 75 IO 39 (io), 76 IO 40 (io), 77 IO 41 (io), 78 IO 42 (io), 79 IO 43 (io), 80 IO 44 (io), 81 IO 45 (io), 82 IO 46 (io), 83 IO 47 (io), 84 IN 5 (in)

## ispl1032_90lj84
designator U?
Programmable Large Scale Integration High-Density Programmable Logic; Published: 16-Jul-2002; LatestRevisionDate: 17-Jul-2002; LatestRevisionNote: Re-released for DXP Platform.; Publisher: Altium Limited
footprint QCC-J84
pins: 1 GND (power), 2 IN 6 (in), 3 IO 48 (io), 4 IO 49 (io), 5 IO 50 (io), 6 IO 51 (io), 7 IO 52 (io), 8 IO 53 (io), 9 IO 54 (io), 10 IO 55 (io), 11 IO 56 (io), 12 IO 57 (io), 13 IO 58 (io), 14 IO 59 (io), 15 IO 60 (io), 16 IO 61 (io), 17 IO 62 (io), 18 IO 63 (io), 19 IN 7 (in), 20 Y 0 (in), 21 VCC (power), 22 GND (power), 23 ~{ISP EN} (in), 24 ~{RESET} (in), 25 SDI (in), 26 IO 0 (io), 27 IO 1 (io), 28 IO 2 (io), 29 IO 3 (io), 30 IO 4 (io), 31 IO 5 (io), 32 IO 6 (io), 33 IO 7 (io), 34 IO 8 (io), 35 IO 9 (io), 36 IO 10 (io), 37 IO 11 (io), 38 IO 12 (io), 39 IO 13 (io), 40 IO 14 (io), 41 IO 15 (io), 42 MODE (in), 43 GND (power), 44 SDO (out), 45 IO 16 (io), 46 IO 17 (io), 47 IO 18 (io), 48 IO 19 (io), 49 IO 20 (io), 50 IO 21 (io), 51 IO 22 (io), 52 IO 23 (io), 53 IO 24 (io), 54 IO 25 (io), 55 IO 26 (io), 56 IO 27 (io), 57 IO 28 (io), 58 IO 29 (io), 59 IO 30 (io), 60 IO 31 (io), 61 SCLK (in), 62 Y 3 (in), 63 Y 2 (in), 64 GND (power), 65 VCC (power), 66 Y 1 (in), 67 IN 4 (in), 68 IO 32 (io), 69 IO 33 (io), 70 IO 34 (io), 71 IO 35 (io), 72 IO 36 (io), 73 IO 37 (io), 74 IO 38 (io), 75 IO 39 (io), 76 IO 40 (io), 77 IO 41 (io), 78 IO 42 (io), 79 IO 43 (io), 80 IO 44 (io), 81 IO 45 (io), 82 IO 46 (io), 83 IO 47 (io), 84 IN 5 (in)

## ispl2032_80lj44
designator U?
In-System Programmable Large Scale Integration High-Density Programmable Logic; Published: 16-Jul-2002; LatestRevisionDate: 17-Jul-2002; LatestRevisionNote: Re-released for DXP Platform.; Publisher: Altium Limited
footprint QCC-J44
pins: 1 GND (power), 2 GOE 0 (in), 3 IO 24 (io), 4 IO 25 (io), 5 IO 26 (io), 6 IO 27 (io), 7 IO 28 (io), 8 IO 29 (io), 9 IO 30 (io), 10 IO 31 (io), 11 Y 0 (in), 12 VCC (power), 13 ~{ISP EN} (in), 14 SDI (in), 15 IO 0 (io), 16 IO 1 (io), 17 IO 2 (io), 18 IO 3 (io), 19 IO 4 (io), 20 IO 5 (io), 21 IO 6 (io), 22 IO 7 (io), 23 GND (power), 24 SDO (io), 25 IO 8 (io), 26 IO 9 (io), 27 IO 10 (io), 28 IO 11 (io), 29 IO 12 (io), 30 IO 13 (io), 31 IO 14 (io), 32 IO 15 (io), 33 SCLK/Y 2 (in), 34 VCC (power), 35 Y 1~{/RESET} (in), 36 MODE (in), 37 IO 16 (io), 38 IO 17 (io), 39 IO 18 (io), 40 IO 19 (io), 41 IO 20 (io), 42 IO 21 (io), 43 IO 22 (io), 44 IO 23 (io)

## ispl2032_80lt44
designator U?
In-System Programmable Large Scale Integration High-Density Programmable Logic; Published: 16-Jul-2002; LatestRevisionDate: 17-Jul-2002; LatestRevisionNote: Re-released for DXP Platform.; Publisher: Altium Limited
footprint QFP10x10-G44/X.5N
pins: 1 IO 28 (io), 2 IO 29 (io), 3 IO 30 (io), 4 IO 31 (io), 5 Y 0 (in), 6 VCC (power), 7 ~{ISP EN} (in), 8 SDI (in), 9 IO 0 (io), 10 IO 1 (io), 11 IO 2 (io), 12 IO 3 (io), 13 IO 4 (io), 14 IO 5 (io), 15 IO 6 (io), 16 IO 7 (io), 17 GND (power), 18 SDO (io), 19 IO 8 (io), 20 IO 9 (io), 21 IO 10 (io), 22 IO 11 (io), 23 IO 12 (io), 24 IO 13 (io), 25 IO 14 (io), 26 IO 15 (io), 27 SCLK/Y 2 (in), 28 VCC (power), 29 Y 1~{/RESET} (in), 30 MODE/NC, 31 IO 16 (io), 32 IO 17 (io), 33 IO 18 (io), 34 IO 19 (io), 35 IO 20 (io), 36 IO 21 (io), 37 IO 22 (io), 38 IO 23 (io), 39 GND (power), 40 GOE 0 (in), 41 IO 24 (io), 42 IO 25 (io), 43 IO 26 (io), 44 IO 27 (io)

## ispl2032_110lj44
designator U?
In-System Programmable Large Scale Integration High-Density Programmable Logic; Published: 16-Jul-2002; LatestRevisionDate: 17-Jul-2002; LatestRevisionNote: Re-released for DXP Platform.; Publisher: Altium Limited
footprint QCC-J44
pins: 1 GND (power), 2 GOE 0 (in), 3 IO 24 (io), 4 IO 25 (io), 5 IO 26 (io), 6 IO 27 (io), 7 IO 28 (io), 8 IO 29 (io), 9 IO 30 (io), 10 IO 31 (io), 11 Y 0 (in), 12 VCC (power), 13 ~{ISP EN} (in), 14 SDI (in), 15 IO 0 (io), 16 IO 1 (io), 17 IO 2 (io), 18 IO 3 (io), 19 IO 4 (io), 20 IO 5 (io), 21 IO 6 (io), 22 IO 7 (io), 23 GND (power), 24 SDO (io), 25 IO 8 (io), 26 IO 9 (io), 27 IO 10 (io), 28 IO 11 (io), 29 IO 12 (io), 30 IO 13 (io), 31 IO 14 (io), 32 IO 15 (io), 33 SCLK/Y 2 (in), 34 VCC (power), 35 Y 1~{/RESET} (in), 36 MODE (in), 37 IO 16 (io), 38 IO 17 (io), 39 IO 18 (io), 40 IO 19 (io), 41 IO 20 (io), 42 IO 21 (io), 43 IO 22 (io), 44 IO 23 (io)

## ispl2032_110lt44
designator U?
In-System Programmable Large Scale Integration High-Density Programmable Logic; Published: 16-Jul-2002; LatestRevisionDate: 17-Jul-2002; LatestRevisionNote: Re-released for DXP Platform.; Publisher: Altium Limited
footprint QFP10x10-G44/X.5N
pins: 1 IO 28 (io), 2 IO 29 (io), 3 IO 30 (io), 4 IO 31 (io), 5 Y 0 (in), 6 VCC (power), 7 ~{ISP EN} (in), 8 SDI (in), 9 IO 0 (io), 10 IO 1 (io), 11 IO 2 (io), 12 IO 3 (io), 13 IO 4 (io), 14 IO 5 (io), 15 IO 6 (io), 16 IO 7 (io), 17 GND (power), 18 SDO (io), 19 IO 8 (io), 20 IO 9 (io), 21 IO 10 (io), 22 IO 11 (io), 23 IO 12 (io), 24 IO 13 (io), 25 IO 14 (io), 26 IO 15 (io), 27 SCLK/Y 2 (in), 28 VCC (power), 29 Y 1~{/RESET} (in), 30 MODE/NC, 31 IO 16 (io), 32 IO 17 (io), 33 IO 18 (io), 34 IO 19 (io), 35 IO 20 (io), 36 IO 21 (io), 37 IO 22 (io), 38 IO 23 (io), 39 GND (power), 40 GOE 0 (in), 41 IO 24 (io), 42 IO 25 (io), 43 IO 26 (io), 44 IO 27 (io)

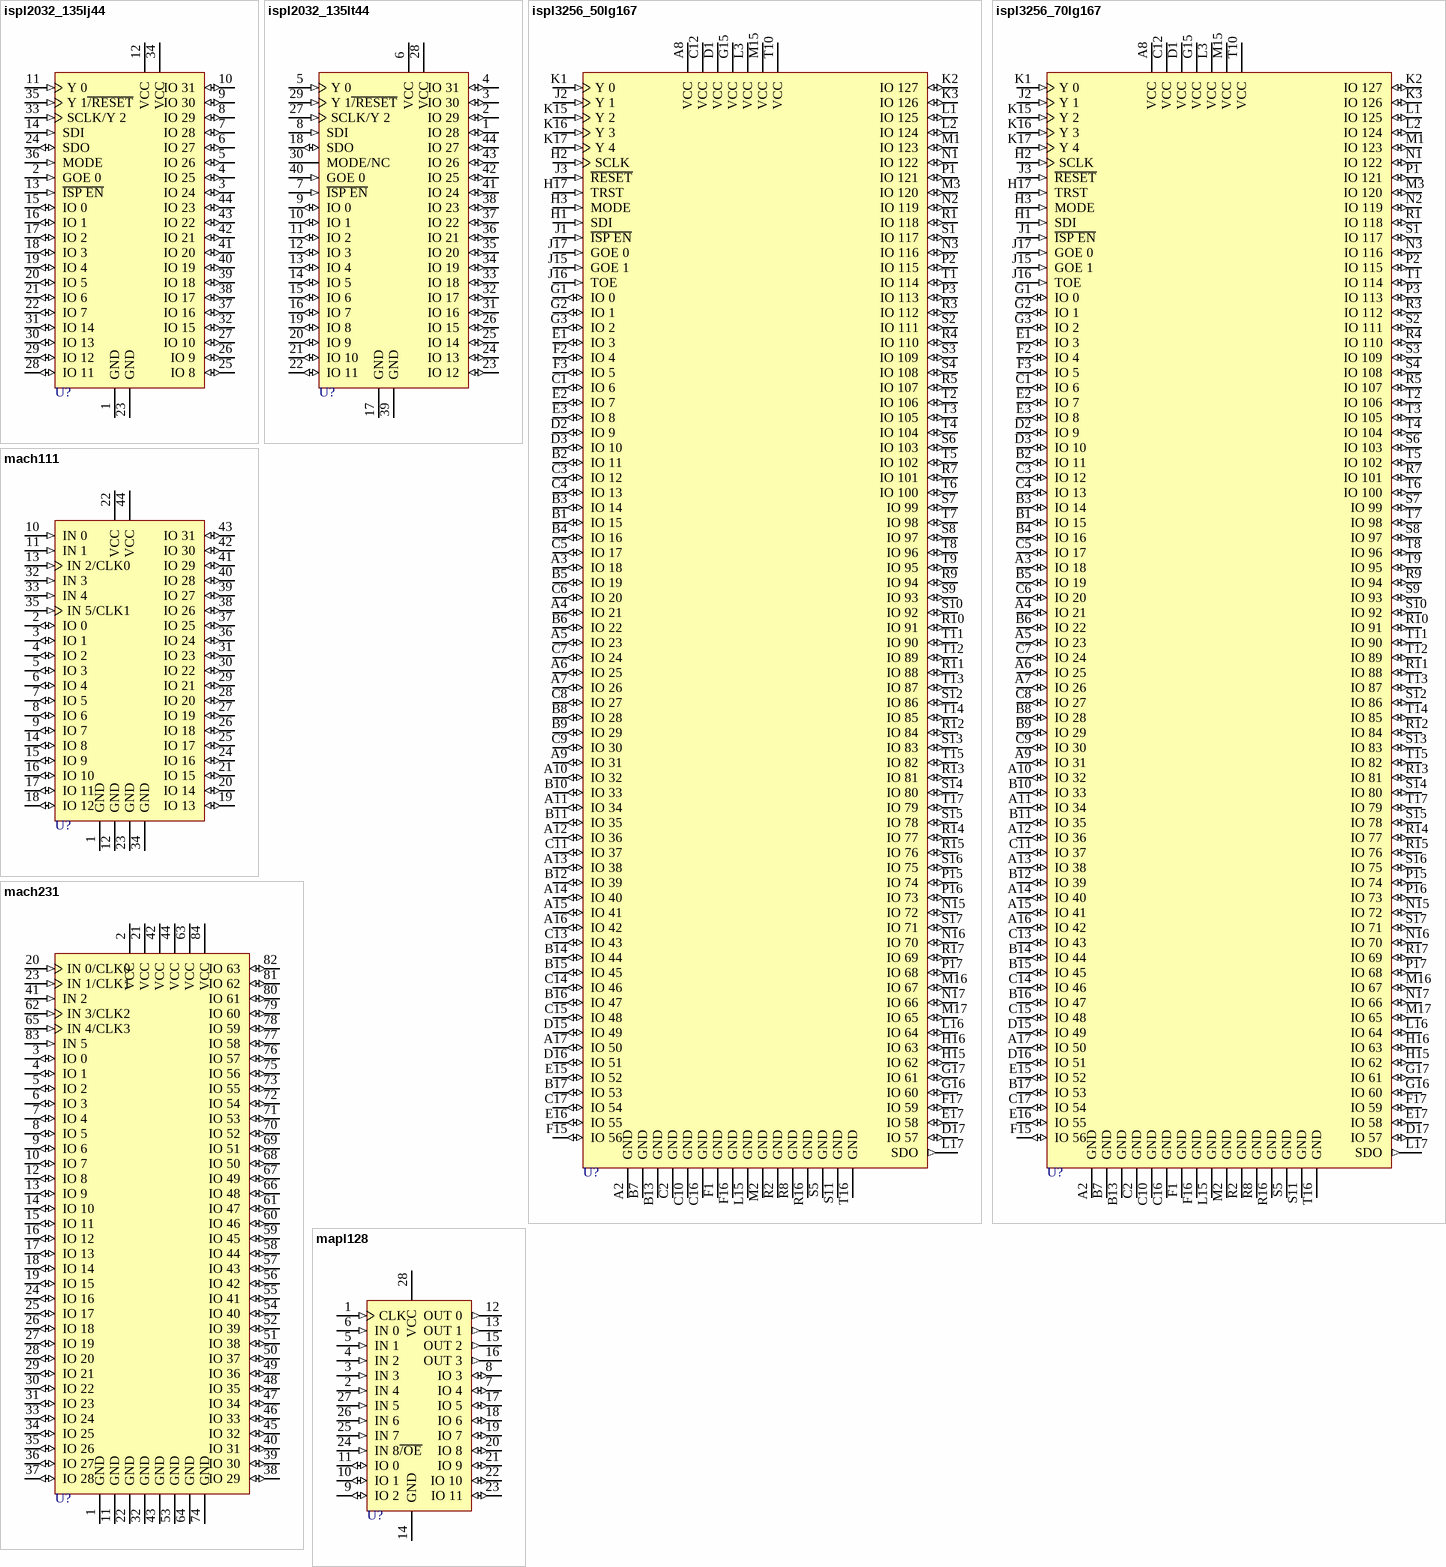
[diagram p6: symbols ispl2032_135lj44 to mapl128]

## ispl2032_135lj44
designator U?
In-System Programmable Large Scale Integration High-Density Programmable Logic; Published: 16-Jul-2002; LatestRevisionDate: 17-Jul-2002; LatestRevisionNote: Re-released for DXP Platform.; Publisher: Altium Limited
footprint QCC-J44
pins: 1 GND (power), 2 GOE 0 (in), 3 IO 24 (io), 4 IO 25 (io), 5 IO 26 (io), 6 IO 27 (io), 7 IO 28 (io), 8 IO 29 (io), 9 IO 30 (io), 10 IO 31 (io), 11 Y 0 (in), 12 VCC (power), 13 ~{ISP EN} (in), 14 SDI (in), 15 IO 0 (io), 16 IO 1 (io), 17 IO 2 (io), 18 IO 3 (io), 19 IO 4 (io), 20 IO 5 (io), 21 IO 6 (io), 22 IO 7 (io), 23 GND (power), 24 SDO (io), 25 IO 8 (io), 26 IO 9 (io), 27 IO 10 (io), 28 IO 11 (io), 29 IO 12 (io), 30 IO 13 (io), 31 IO 14 (io), 32 IO 15 (io), 33 SCLK/Y 2 (in), 34 VCC (power), 35 Y 1~{/RESET} (in), 36 MODE (in), 37 IO 16 (io), 38 IO 17 (io), 39 IO 18 (io), 40 IO 19 (io), 41 IO 20 (io), 42 IO 21 (io), 43 IO 22 (io), 44 IO 23 (io)

## ispl2032_135lt44
designator U?
In-System Programmable Large Scale Integration High-Density Programmable Logic; Published: 16-Jul-2002; LatestRevisionDate: 17-Jul-2002; LatestRevisionNote: Re-released for DXP Platform.; Publisher: Altium Limited
footprint QFP10x10-G44/X.5N
pins: 1 IO 28 (io), 2 IO 29 (io), 3 IO 30 (io), 4 IO 31 (io), 5 Y 0 (in), 6 VCC (power), 7 ~{ISP EN} (in), 8 SDI (in), 9 IO 0 (io), 10 IO 1 (io), 11 IO 2 (io), 12 IO 3 (io), 13 IO 4 (io), 14 IO 5 (io), 15 IO 6 (io), 16 IO 7 (io), 17 GND (power), 18 SDO (io), 19 IO 8 (io), 20 IO 9 (io), 21 IO 10 (io), 22 IO 11 (io), 23 IO 12 (io), 24 IO 13 (io), 25 IO 14 (io), 26 IO 15 (io), 27 SCLK/Y 2 (in), 28 VCC (power), 29 Y 1~{/RESET} (in), 30 MODE/NC, 31 IO 16 (io), 32 IO 17 (io), 33 IO 18 (io), 34 IO 19 (io), 35 IO 20 (io), 36 IO 21 (io), 37 IO 22 (io), 38 IO 23 (io), 39 GND (power), 40 GOE 0 (in), 41 IO 24 (io), 42 IO 25 (io), 43 IO 26 (io), 44 IO 27 (io)

## ispl3256_50lg167
designator U?
High-Density Programmable Logic; Published: 16-Jul-2002; LatestRevisionDate: 17-Jul-2002; LatestRevisionNote: Re-released for DXP Platform.; Publisher: Altium Limited
pins: A2 GND (power), A3 IO 18 (io), A4 IO 21 (io), A5 IO 23 (io), A6 IO 25 (io), A7 IO 26 (io), A8 VCC (power), A9 IO 31 (io), A10 IO 32 (io), A11 IO 34 (io), A12 IO 36 (io), A13 IO 38 (io), A14 IO 40 (io), A15 IO 41 (io), A16 IO 42 (io), A17 IO 50 (io), B1 IO 15 (io), B2 IO 11 (io), B3 IO 14 (io), B4 IO 16 (io), B5 IO 19 (io), B6 IO 22 (io), B7 GND (power), B8 IO 28 (io), B9 IO 29 (io), B10 IO 33 (io), B11 IO 35 (io), B12 IO 39 (io), B13 GND (power), B14 IO 44 (io), B15 IO 45 (io), B16 IO 47 (io), B17 IO 53 (io), C1 IO 6 (io), C2 GND (power), C3 IO 12 (io), C4 IO 13 (io), C5 IO 17 (io), C6 IO 20 (io), C7 IO 24 (io), C8 IO 27 (io), C9 IO 30 (io), C10 GND (power), C11 IO 37 (io), C12 VCC (power), C13 IO 43 (io), C14 IO 46 (io), C15 IO 48 (io), C16 GND (power), C17 IO 54 (io), D1 VCC (power), D2 IO 9 (io), D3 IO 10 (io), D15 IO 49 (io), D16 IO 51 (io), D17 IO 57 (io), E1 IO 3 (io), E2 IO 7 (io), E3 IO 8 (io), E15 IO 52 (io), E16 IO 55 (io), E17 IO 58 (io), F1 GND (power), F2 IO 4 (io), F3 IO 5 (io), F15 IO 56 (io), F16 GND (power), F17 IO 59 (io), G1 IO 0 (io), G2 IO 1 (io), G3 IO 2 (io), G15 VCC (power), G16 IO 60 (io), G17 IO 61 (io), H1 SDI (in), H2 SCLK (in), H3 MODE (in), H15 IO 62 (io), H16 IO 63 (io), H17 TRST (in), J1 ~{ISP EN} (in), J2 Y 1 (in), J3 ~{RESET} (in), J15 GOE 1 (in), J16 TOE (in), J17 GOE 0 (in), K1 Y 0 (in), K2 IO 127 (io), K3 IO 126 (io), K15 Y 2 (in), K16 Y 3 (in), K17 Y 4 (in), L1 IO 125 (io), L2 IO 124 (io), L3 VCC (power), L15 GND (power), L16 IO 64 (io), L17 SDO (out), M1 IO 123 (io), M2 GND (power), M3 IO 120 (io), M15 VCC (power), M16 IO 67 (io), M17 IO 65 (io), N1 IO 122 (io), N2 IO 119 (io), N3 IO 116 (io), N15 IO 72 (io), N16 IO 70 (io), N17 IO 66 (io), P1 IO 121 (io), P2 IO 115 (io), P3 IO 113 (io), P15 IO 74 (io), P16 IO 73 (io), P17 IO 68 (io), R1 IO 118 (io), R2 GND (power), R3 IO 112 (io), R4 IO 110 (io), R5 IO 107 (io), R7 IO 101 (io), R8 GND (power), R9 IO 94 (io), R10 IO 91 (io), R11 IO 88 (io), R12 IO 84 (io), R13 IO 81 (io), R14 IO 77 (io), R15 IO 76 (io), R16 GND (power), R17 IO 69 (io), S1 IO 117 (io), S2 IO 111 (io), S3 IO 109 (io), S4 IO 108 (io), S5 GND (power), S6 IO 103 (io), S7 IO 99 (io), S8 IO 97 (io), S9 IO 93 (io), S10 IO 92 (io), S11 GND (power), S12 IO 86 (io), S13 IO 83 (io), S14 IO 80 (io), S15 IO 78 (io), S16 IO 75 (io), S17 IO 71 (io), T1 IO 114 (io), T2 IO 106 (io), T3 IO 105 (io), T4 IO 104 (io), T5 IO 102 (io), T6 IO 100 (io), T7 IO 98 (io), T8 IO 96 (io), T9 IO 95 (io), T10 VCC (power), T11 IO 90 (io), T12 IO 89 (io), T13 IO 87 (io), T14 IO 85 (io), T15 IO 82 (io), T16 GND (power), T17 IO 79 (io)

## ispl3256_70lg167
designator U?
High-Density Programmable Logic; Published: 16-Jul-2002; LatestRevisionDate: 17-Jul-2002; LatestRevisionNote: Re-released for DXP Platform.; Publisher: Altium Limited
pins: A2 GND (power), A3 IO 18 (io), A4 IO 21 (io), A5 IO 23 (io), A6 IO 25 (io), A7 IO 26 (io), A8 VCC (power), A9 IO 31 (io), A10 IO 32 (io), A11 IO 34 (io), A12 IO 36 (io), A13 IO 38 (io), A14 IO 40 (io), A15 IO 41 (io), A16 IO 42 (io), A17 IO 50 (io), B1 IO 15 (io), B2 IO 11 (io), B3 IO 14 (io), B4 IO 16 (io), B5 IO 19 (io), B6 IO 22 (io), B7 GND (power), B8 IO 28 (io), B9 IO 29 (io), B10 IO 33 (io), B11 IO 35 (io), B12 IO 39 (io), B13 GND (power), B14 IO 44 (io), B15 IO 45 (io), B16 IO 47 (io), B17 IO 53 (io), C1 IO 6 (io), C2 GND (power), C3 IO 12 (io), C4 IO 13 (io), C5 IO 17 (io), C6 IO 20 (io), C7 IO 24 (io), C8 IO 27 (io), C9 IO 30 (io), C10 GND (power), C11 IO 37 (io), C12 VCC (power), C13 IO 43 (io), C14 IO 46 (io), C15 IO 48 (io), C16 GND (power), C17 IO 54 (io), D1 VCC (power), D2 IO 9 (io), D3 IO 10 (io), D15 IO 49 (io), D16 IO 51 (io), D17 IO 57 (io), E1 IO 3 (io), E2 IO 7 (io), E3 IO 8 (io), E15 IO 52 (io), E16 IO 55 (io), E17 IO 58 (io), F1 GND (power), F2 IO 4 (io), F3 IO 5 (io), F15 IO 56 (io), F16 GND (power), F17 IO 59 (io), G1 IO 0 (io), G2 IO 1 (io), G3 IO 2 (io), G15 VCC (power), G16 IO 60 (io), G17 IO 61 (io), H1 SDI (in), H2 SCLK (in), H3 MODE (in), H15 IO 62 (io), H16 IO 63 (io), H17 TRST (in), J1 ~{ISP EN} (in), J2 Y 1 (in), J3 ~{RESET} (in), J15 GOE 1 (in), J16 TOE (in), J17 GOE 0 (in), K1 Y 0 (in), K2 IO 127 (io), K3 IO 126 (io), K15 Y 2 (in), K16 Y 3 (in), K17 Y 4 (in), L1 IO 125 (io), L2 IO 124 (io), L3 VCC (power), L15 GND (power), L16 IO 64 (io), L17 SDO (out), M1 IO 123 (io), M2 GND (power), M3 IO 120 (io), M15 VCC (power), M16 IO 67 (io), M17 IO 65 (io), N1 IO 122 (io), N2 IO 119 (io), N3 IO 116 (io), N15 IO 72 (io), N16 IO 70 (io), N17 IO 66 (io), P1 IO 121 (io), P2 IO 115 (io), P3 IO 113 (io), P15 IO 74 (io), P16 IO 73 (io), P17 IO 68 (io), R1 IO 118 (io), R2 GND (power), R3 IO 112 (io), R4 IO 110 (io), R5 IO 107 (io), R7 IO 101 (io), R8 GND (power), R9 IO 94 (io), R10 IO 91 (io), R11 IO 88 (io), R12 IO 84 (io), R13 IO 81 (io), R14 IO 77 (io), R15 IO 76 (io), R16 GND (power), R17 IO 69 (io), S1 IO 117 (io), S2 IO 111 (io), S3 IO 109 (io), S4 IO 108 (io), S5 GND (power), S6 IO 103 (io), S7 IO 99 (io), S8 IO 97 (io), S9 IO 93 (io), S10 IO 92 (io), S11 GND (power), S12 IO 86 (io), S13 IO 83 (io), S14 IO 80 (io), S15 IO 78 (io), S16 IO 75 (io), S17 IO 71 (io), T1 IO 114 (io), T2 IO 106 (io), T3 IO 105 (io), T4 IO 104 (io), T5 IO 102 (io), T6 IO 100 (io), T7 IO 98 (io), T8 IO 96 (io), T9 IO 95 (io), T10 VCC (power), T11 IO 90 (io), T12 IO 89 (io), T13 IO 87 (io), T14 IO 85 (io), T15 IO 82 (io), T16 GND (power), T17 IO 79 (io)

## mach111
designator U?
High-Density EE CMOS Programmable Logic; Published: 16-Jul-2002; LatestRevisionDate: 17-Jul-2002; LatestRevisionNote: Re-released for DXP Platform.; Publisher: Altium Limited
footprint QCC-J44
pins: 1 GND (power), 2 IO 0 (io), 3 IO 1 (io), 4 IO 2 (io), 5 IO 3 (io), 6 IO 4 (io), 7 IO 5 (io), 8 IO 6 (io), 9 IO 7 (io), 10 IN 0 (in), 11 IN 1 (in), 12 GND (power), 13 IN 2/CLK0 (in), 14 IO 8 (io), 15 IO 9 (io), 16 IO 10 (io), 17 IO 11 (io), 18 IO 12 (io), 19 IO 13 (io), 20 IO 14 (io), 21 IO 15 (io), 22 VCC (power), 23 GND (power), 24 IO 16 (io), 25 IO 17 (io), 26 IO 18 (io), 27 IO 19 (io), 28 IO 20 (io), 29 IO 21 (io), 30 IO 22 (io), 31 IO 23 (io), 32 IN 3 (in), 33 IN 4 (in), 34 GND (power), 35 IN 5/CLK1 (in), 36 IO 24 (io), 37 IO 25 (io), 38 IO 26 (io), 39 IO 27 (io), 40 IO 28 (io), 41 IO 29 (io), 42 IO 30 (io), 43 IO 31 (io), 44 VCC (power)

## mach231
designator U?
High-Density EE CMOS Programmable Logic; Published: 16-Jul-2002; LatestRevisionDate: 17-Jul-2002; LatestRevisionNote: Re-released for DXP Platform.; Publisher: Altium Limited
footprint QCC-J84
pins: 1 GND (power), 2 VCC (power), 3 IO 0 (io), 4 IO 1 (io), 5 IO 2 (io), 6 IO 3 (io), 7 IO 4 (io), 8 IO 5 (io), 9 IO 6 (io), 10 IO 7 (io), 11 GND (power), 12 IO 8 (io), 13 IO 9 (io), 14 IO 10 (io), 15 IO 11 (io), 16 IO 12 (io), 17 IO 13 (io), 18 IO 14 (io), 19 IO 15 (io), 20 IN 0/CLK0 (in), 21 VCC (power), 22 GND (power), 23 IN 1/CLK1 (in), 24 IO 16 (io), 25 IO 17 (io), 26 IO 18 (io), 27 IO 19 (io), 28 IO 20 (io), 29 IO 21 (io), 30 IO 22 (io), 31 IO 23 (io), 32 GND (power), 33 IO 24 (io), 34 IO 25 (io), 35 IO 26 (io), 36 IO 27 (io), 37 IO 28 (io), 38 IO 29 (io), 39 IO 30 (io), 40 IO 31 (io), 41 IN 2 (in), 42 VCC (power), 43 GND (power), 44 VCC (power), 45 IO 32 (io), 46 IO 33 (io), 47 IO 34 (io), 48 IO 35 (io), 49 IO 36 (io), 50 IO 37 (io), 51 IO 38 (io), 52 IO 39 (io), 53 GND (power), 54 IO 40 (io), 55 IO 41 (io), 56 IO 42 (io), 57 IO 43 (io), 58 IO 44 (io), 59 IO 45 (io), 60 IO 46 (io), 61 IO 47 (io), 62 IN 3/CLK2 (in), 63 VCC (power), 64 GND (power), 65 IN 4/CLK3 (in), 66 IO 48 (io), 67 IO 49 (io), 68 IO 50 (io), 69 IO 51 (io), 70 IO 52 (io), 71 IO 53 (io), 72 IO 54 (io), 73 IO 55 (io), 74 GND (power), 75 IO 56 (io), 76 IO 57 (io), 77 IO 58 (io), 78 IO 59 (io), 79 IO 60 (io), 80 IO 61 (io), 81 IO 62 (io), 82 IO 63 (io), 83 IN 5 (in), 84 VCC (power)

## mapl128
designator U?
Multiple Array Programmable Logic; Published: 16-Jul-2002; LatestRevisionDate: 17-Jul-2002; LatestRevisionNote: Re-released for DXP Platform.; Publisher: Altium Limited
footprint DIP-28/D38.1
pins: 1 CLK (in), 2 IN 4 (in), 3 IN 3 (in), 4 IN 2 (in), 5 IN 1 (in), 6 IN 0 (in), 7 IO 4 (io), 8 IO 3 (io), 9 IO 2 (io), 10 IO 1 (io), 11 IO 0 (io), 12 OUT 0 (out), 13 OUT 1 (out), 14 GND (power), 15 OUT 2 (out), 16 OUT 3 (out), 17 IO 5 (io), 18 IO 6 (io), 19 IO 7 (io), 20 IO 8 (io), 21 IO 9 (io), 22 IO 10 (io), 23 IO 11 (io), 24 IN 8~{/OE} (in), 25 IN 7 (in), 26 IN 6 (in), 27 IN 5 (in), 28 VCC (power)

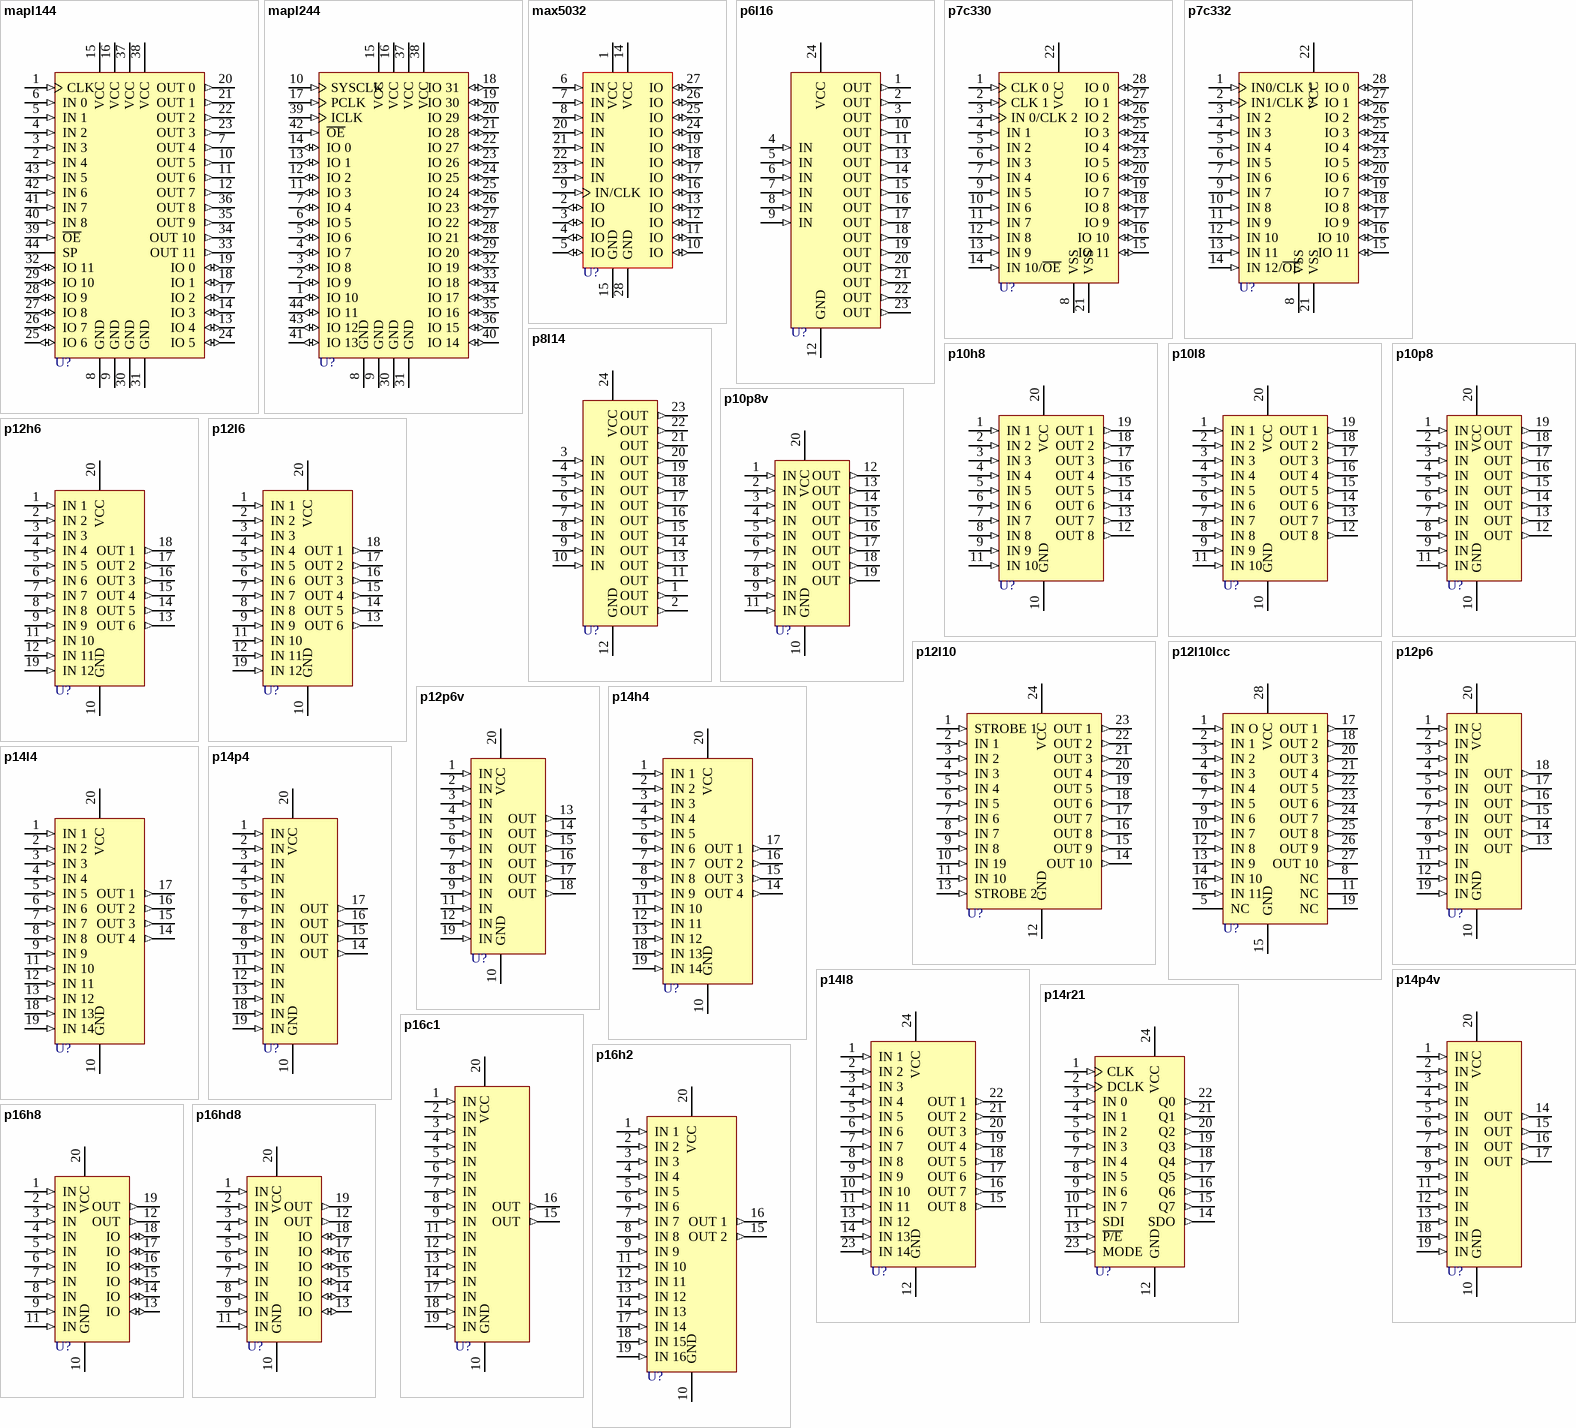
[diagram p7: symbols mapl144 to p16hd8]

## mapl144
designator U?
Multiple Array Programmable Logic; Published: 16-Jul-2002; LatestRevisionDate: 17-Jul-2002; LatestRevisionNote: Re-released for DXP Platform.; Publisher: Altium Limited
pins: 1 CLK (in), 2 IN 4 (in), 3 IN 3 (in), 4 IN 2 (in), 5 IN 1 (in), 6 IN 0 (in), 7 OUT 4 (out), 8 GND (power), 9 GND (power), 10 OUT 5 (out), 11 OUT 6 (out), 12 OUT 7 (out), 13 IO 4 (io), 14 IO 3 (io), 15 VCC (power), 16 VCC (power), 17 IO 2 (io), 18 IO 1 (io), 19 IO 0 (io), 20 OUT 0 (out), 21 OUT 1 (out), 22 OUT 2 (out), 23 OUT 3 (out), 24 IO 5 (io), 25 IO 6 (io), 26 IO 7 (io), 27 IO 8 (io), 28 IO 9 (io), 29 IO 10 (io), 30 GND (power), 31 GND (power), 32 IO 11 (io), 33 OUT 11 (out), 34 OUT 10 (out), 35 OUT 9 (out), 36 OUT 8 (out), 37 VCC (power), 38 VCC (power), 39 ~{OE} (in), 40 IN 8 (in), 41 IN 7 (in), 42 IN 6 (in), 43 IN 5 (in), 44 SP

## mapl244
designator U?
Multiple Array Programmable Logic; Published: 16-Jul-2002; LatestRevisionDate: 17-Jul-2002; LatestRevisionNote: Re-released for DXP Platform.; Publisher: Altium Limited
pins: 1 IO 10 (io), 2 IO 9 (io), 3 IO 8 (io), 4 IO 7 (io), 5 IO 6 (io), 6 IO 5 (io), 7 IO 4 (io), 8 GND (power), 9 GND (power), 10 SYSCLK (in), 11 IO 3 (io), 12 IO 2 (io), 13 IO 1 (io), 14 IO 0 (io), 15 VCC (power), 16 VCC (power), 17 PCLK (in), 18 IO 31 (io), 19 IO 30 (io), 20 IO 29 (io), 21 IO 28 (io), 22 IO 27 (io), 23 IO 26 (io), 24 IO 25 (io), 25 IO 24 (io), 26 IO 23 (io), 27 IO 22 (io), 28 IO 21 (io), 29 IO 20 (io), 30 GND (power), 31 GND (power), 32 IO 19 (io), 33 IO 18 (io), 34 IO 17 (io), 35 IO 16 (io), 36 IO 15 (io), 37 VCC (power), 38 VCC (power), 39 ICLK (in), 40 IO 14 (io), 41 IO 13 (io), 42 ~{OE} (in), 43 IO 12 (io), 44 IO 11 (io)

## max5032
designator U?
Max 5000 Erasable Programmable Logic Device (16-Macrocell); Published: 16-Jul-2002; LatestRevisionDate: 17-Jul-2002; LatestRevisionNote: Re-released for DXP Platform.; Publisher: Altium Limited
pins: 1 VCC (power), 2 IO (io), 3 IO (io), 4 IO (io), 5 IO (io), 6 IN (in), 7 IN (in), 8 IN (in), 9 IN/CLK (in), 10 IO (io), 11 IO (io), 12 IO (io), 13 IO (io), 14 VCC (power), 15 GND (power), 16 IO (io), 17 IO (io), 18 IO (io), 19 IO (io), 20 IN (in), 21 IN (in), 22 IN (in), 23 IN (in), 24 IO (io), 25 IO (io), 26 IO (io), 27 IO (io), 28 GND (power)

## p6l16
designator U?
Combinational Logic Decoder Series; Published: 16-Jul-2002; LatestRevisionDate: 17-Jul-2002; LatestRevisionNote: Re-released for DXP Platform.; Publisher: Altium Limited
pins: 1 OUT (out), 2 OUT (out), 3 OUT (out), 4 IN (in), 5 IN (in), 6 IN (in), 7 IN (in), 8 IN (in), 9 IN (in), 10 OUT (out), 11 OUT (out), 12 GND (power), 13 OUT (out), 14 OUT (out), 15 OUT (out), 16 OUT (out), 17 OUT (out), 18 OUT (out), 19 OUT (out), 20 OUT (out), 21 OUT (out), 22 OUT (out), 23 OUT (out), 24 VCC (power)

## p7c330
designator U?
CMOS Programmable Synchronous State Machine; Published: 16-Jul-2002; LatestRevisionDate: 17-Jul-2002; LatestRevisionNote: Re-released for DXP Platform.; Publisher: Altium Limited
pins: 1 CLK 0 (in), 2 CLK 1 (in), 3 IN 0/CLK 2 (in), 4 IN 1 (in), 5 IN 2 (in), 6 IN 3 (in), 7 IN 4 (in), 8 VSS (power), 9 IN 5 (in), 10 IN 6 (in), 11 IN 7 (in), 12 IN 8 (in), 13 IN 9 (in), 14 IN 10/~{OE} (in), 15 IO 11 (io), 16 IO 10 (io), 17 IO 9 (io), 18 IO 8 (io), 19 IO 7 (io), 20 IO 6 (io), 21 VSS (power), 22 VCC (power), 23 IO 5 (io), 24 IO 4 (io), 25 IO 3 (io), 26 IO 2 (io), 27 IO 1 (io), 28 IO 0 (io)

## p7c332
designator U?
Asynchronous Registered EPLD; Published: 16-Jul-2002; LatestRevisionDate: 17-Jul-2002; LatestRevisionNote: Re-released for DXP Platform.; Publisher: Altium Limited
pins: 1 IN0/CLK 1 (in), 2 IN1/CLK 2 (in), 3 IN 2 (in), 4 IN 3 (in), 5 IN 4 (in), 6 IN 5 (in), 7 IN 6 (in), 8 VSS (power), 9 IN 7 (in), 10 IN 8 (in), 11 IN 9 (in), 12 IN 10 (in), 13 IN 11 (in), 14 IN 12/~{OE} (in), 15 IO 11 (io), 16 IO 10 (io), 17 IO 9 (io), 18 IO 8 (io), 19 IO 7 (io), 20 IO 6 (io), 21 VSS (power), 22 VCC (power), 23 IO 5 (io), 24 IO 4 (io), 25 IO 3 (io), 26 IO 2 (io), 27 IO 1 (io), 28 IO 0 (io)

## p8l14
designator U?
Combinational Logic Decoder Series; Published: 16-Jul-2002; LatestRevisionDate: 17-Jul-2002; LatestRevisionNote: Re-released for DXP Platform.; Publisher: Altium Limited
pins: 1 OUT (out), 2 OUT (out), 3 IN (in), 4 IN (in), 5 IN (in), 6 IN (in), 7 IN (in), 8 IN (in), 9 IN (in), 10 IN (in), 11 OUT (out), 12 GND (power), 13 OUT (out), 14 OUT (out), 15 OUT (out), 16 OUT (out), 17 OUT (out), 18 OUT (out), 19 OUT (out), 20 OUT (out), 21 OUT (out), 22 OUT (out), 23 OUT (out), 24 VCC (power)

## p10h8
designator U?
Combinational Logic with No Feedback; Published: 16-Jul-2002; LatestRevisionDate: 17-Jul-2002; LatestRevisionNote: Re-released for DXP Platform.; Publisher: Altium Limited
footprint DIP-20
pins: 1 IN 1 (in), 2 IN 2 (in), 3 IN 3 (in), 4 IN 4 (in), 5 IN 5 (in), 6 IN 6 (in), 7 IN 7 (in), 8 IN 8 (in), 9 IN 9 (in), 10 GND (power), 11 IN 10 (in), 12 OUT 8 (out), 13 OUT 7 (out), 14 OUT 6 (out), 15 OUT 5 (out), 16 OUT 4 (out), 17 OUT 3 (out), 18 OUT 2 (out), 19 OUT 1 (out), 20 VCC (power)